# Altium schematic symbol library MCU_NXP_S08.SchLib: 189 symbols (part 1 of 4)
Pins are listed as number, name and electrical type; pins without a type are passive.

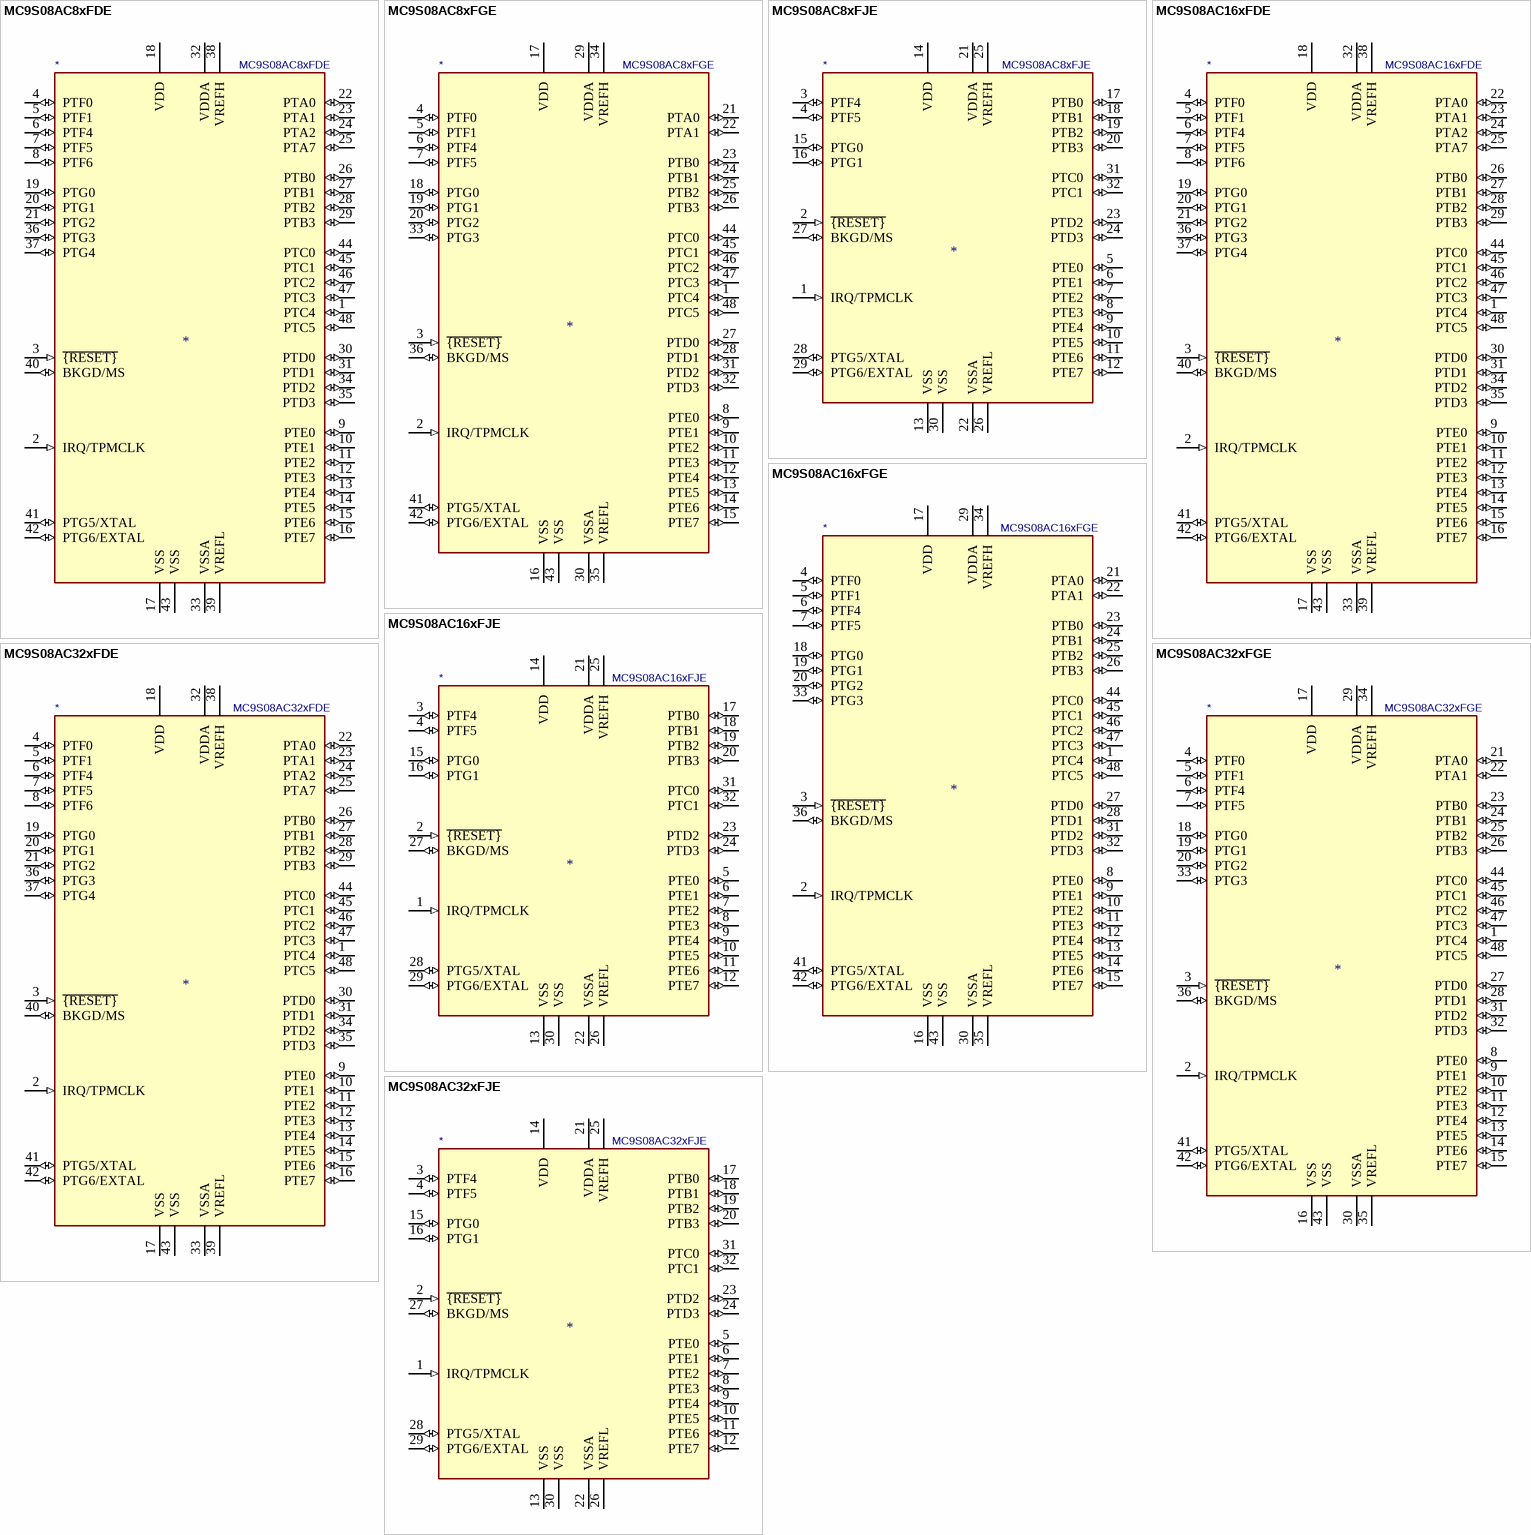
[diagram p0: symbols MC9S08AC8xFDE to MC9S08AC32xFJE]

## MC9S08AC8xFDE
designator *  value MC9S08AC8xFDE
ki_keywords: NXP S08 Microcontroller; ki_description: 8-bit Flexis Microcontroller, S08 core, 8kB Flash, 768B RAM, QFN-48; ki_fp_filters: QFN*7x7mm*P0.5mm*; Footprint: Package_DFN_QFN:QFN-48-1EP_7x7mm_P0.5mm_EP5.15x5.15mm; Supplier: http://cache.nxp.com/files/microcontrollers/doc/data_sheet/MC9S08AC16.pdf
footprint QFN-48-1EP_7x7mm_P0.5mm_EP5.15x5.15mm
pins: 1 PTC4 (io), 2 IRQ/TPMCLK (in), 3 ~{{RESET}} (in), 4 PTF0 (io), 5 PTF1 (io), 6 PTF4 (io), 7 PTF5 (io), 8 PTF6 (io), 9 PTE0 (io), 10 PTE1 (io), 11 PTE2 (io), 12 PTE3 (io), 13 PTE4 (io), 14 PTE5 (io), 15 PTE6 (io), 16 PTE7 (io), 17 VSS (power), 18 VDD (power), 19 PTG0 (io), 20 PTG1 (io), 21 PTG2 (io), 22 PTA0 (io), 23 PTA1 (io), 24 PTA2 (io), 25 PTA7 (io), 26 PTB0 (io), 27 PTB1 (io), 28 PTB2 (io), 29 PTB3 (io), 30 PTD0 (io), 31 PTD1 (io), 32 VDDA (power), 33 VSSA (power), 34 PTD2 (io), 35 PTD3 (io), 36 PTG3 (io), 37 PTG4 (io), 38 VREFH (power), 39 VREFL (power), 40 BKGD/MS (io), 41 PTG5/XTAL (io), 42 PTG6/EXTAL (io), 43 VSS (power), 44 PTC0 (io), 45 PTC1 (io), 46 PTC2 (io), 47 PTC3 (io), 48 PTC5 (io)

## MC9S08AC8xFGE
designator *  value MC9S08AC8xFGE
ki_keywords: NXP S08 Microcontroller; ki_description: 8-bit Flexis Microcontroller, S08 core, 8kB Flash, 768B RAM, LQFP-44; ki_fp_filters: LQFP*10x10mm*P0.8mm*; Footprint: Package_QFP:LQFP-44_10x10mm_P0.8mm; Supplier: http://cache.nxp.com/files/microcontrollers/doc/data_sheet/MC9S08AC16.pdf
footprint LQFP-44_10x10mm_P0.8mm
pins: 1 PTC4 (io), 2 IRQ/TPMCLK (in), 3 ~{{RESET}} (in), 4 PTF0 (io), 5 PTF1 (io), 6 PTF4 (io), 7 PTF5 (io), 8 PTE0 (io), 9 PTE1 (io), 10 PTE2 (io), 11 PTE3 (io), 12 PTE4 (io), 13 PTE5 (io), 14 PTE6 (io), 15 PTE7 (io), 16 VSS (power), 17 VDD (power), 18 PTG0 (io), 19 PTG1 (io), 20 PTG2 (io), 21 PTA0 (io), 22 PTA1 (io), 23 PTB0 (io), 24 PTB1 (io), 25 PTB2 (io), 26 PTB3 (io), 27 PTD0 (io), 28 PTD1 (io), 29 VDDA (power), 30 VSSA (power), 31 PTD2 (io), 32 PTD3 (io), 33 PTG3 (io), 34 VREFH (power), 35 VREFL (power), 36 BKGD/MS (io), 41 PTG5/XTAL (io), 42 PTG6/EXTAL (io), 43 VSS (power), 44 PTC0 (io), 45 PTC1 (io), 46 PTC2 (io), 47 PTC3 (io), 48 PTC5 (io)

## MC9S08AC8xFJE
designator *  value MC9S08AC8xFJE
ki_keywords: NXP S08 Microcontroller; ki_description: 8-bit Flexis Microcontroller, S08 core, 8kB Flash, 768B RAM, LQFP-32; ki_fp_filters: LQFP*7x7mm*P0.8mm*; Footprint: Package_QFP:LQFP-32_7x7mm_P0.8mm; Supplier: http://cache.nxp.com/files/microcontrollers/doc/data_sheet/MC9S08AC16.pdf
footprint LQFP-32_7x7mm_P0.8mm
pins: 1 IRQ/TPMCLK (in), 2 ~{{RESET}} (in), 3 PTF4 (io), 4 PTF5 (io), 5 PTE0 (io), 6 PTE1 (io), 7 PTE2 (io), 8 PTE3 (io), 9 PTE4 (io), 10 PTE5 (io), 11 PTE6 (io), 12 PTE7 (io), 13 VSS (power), 14 VDD (power), 15 PTG0 (io), 16 PTG1 (io), 17 PTB0 (io), 18 PTB1 (io), 19 PTB2 (io), 20 PTB3 (io), 21 VDDA (power), 22 VSSA (power), 23 PTD2 (io), 24 PTD3 (io), 25 VREFH (power), 26 VREFL (power), 27 BKGD/MS (io), 28 PTG5/XTAL (io), 29 PTG6/EXTAL (io), 30 VSS (power), 31 PTC0 (io), 32 PTC1 (io)

## MC9S08AC16xFDE
designator *  value MC9S08AC16xFDE
ki_keywords: NXP S08 Microcontroller; ki_description: 8-bit Flexis Microcontroller, S08 core, 16kB Flash, 1kB RAM, QFN-48; ki_fp_filters: QFN*7x7mm*P0.5mm*; Footprint: Package_DFN_QFN:QFN-48-1EP_7x7mm_P0.5mm_EP5.15x5.15mm; Supplier: http://cache.nxp.com/files/microcontrollers/doc/data_sheet/MC9S08AC16.pdf
footprint QFN-48-1EP_7x7mm_P0.5mm_EP5.15x5.15mm
pins: 1 PTC4 (io), 2 IRQ/TPMCLK (in), 3 ~{{RESET}} (in), 4 PTF0 (io), 5 PTF1 (io), 6 PTF4 (io), 7 PTF5 (io), 8 PTF6 (io), 9 PTE0 (io), 10 PTE1 (io), 11 PTE2 (io), 12 PTE3 (io), 13 PTE4 (io), 14 PTE5 (io), 15 PTE6 (io), 16 PTE7 (io), 17 VSS (power), 18 VDD (power), 19 PTG0 (io), 20 PTG1 (io), 21 PTG2 (io), 22 PTA0 (io), 23 PTA1 (io), 24 PTA2 (io), 25 PTA7 (io), 26 PTB0 (io), 27 PTB1 (io), 28 PTB2 (io), 29 PTB3 (io), 30 PTD0 (io), 31 PTD1 (io), 32 VDDA (power), 33 VSSA (power), 34 PTD2 (io), 35 PTD3 (io), 36 PTG3 (io), 37 PTG4 (io), 38 VREFH (power), 39 VREFL (power), 40 BKGD/MS (io), 41 PTG5/XTAL (io), 42 PTG6/EXTAL (io), 43 VSS (power), 44 PTC0 (io), 45 PTC1 (io), 46 PTC2 (io), 47 PTC3 (io), 48 PTC5 (io)

## MC9S08AC16xFGE
designator *  value MC9S08AC16xFGE
ki_keywords: NXP S08 Microcontroller; ki_description: 8-bit Flexis Microcontroller, S08 core, 16kB Flash, 1kB RAM, LQFP-44; ki_fp_filters: LQFP*10x10mm*P0.8mm*; Footprint: Package_QFP:LQFP-44_10x10mm_P0.8mm; Supplier: http://cache.nxp.com/files/microcontrollers/doc/data_sheet/MC9S08AC16.pdf
footprint LQFP-44_10x10mm_P0.8mm
pins: 1 PTC4 (io), 2 IRQ/TPMCLK (in), 3 ~{{RESET}} (in), 4 PTF0 (io), 5 PTF1 (io), 6 PTF4 (io), 7 PTF5 (io), 8 PTE0 (io), 9 PTE1 (io), 10 PTE2 (io), 11 PTE3 (io), 12 PTE4 (io), 13 PTE5 (io), 14 PTE6 (io), 15 PTE7 (io), 16 VSS (power), 17 VDD (power), 18 PTG0 (io), 19 PTG1 (io), 20 PTG2 (io), 21 PTA0 (io), 22 PTA1 (io), 23 PTB0 (io), 24 PTB1 (io), 25 PTB2 (io), 26 PTB3 (io), 27 PTD0 (io), 28 PTD1 (io), 29 VDDA (power), 30 VSSA (power), 31 PTD2 (io), 32 PTD3 (io), 33 PTG3 (io), 34 VREFH (power), 35 VREFL (power), 36 BKGD/MS (io), 41 PTG5/XTAL (io), 42 PTG6/EXTAL (io), 43 VSS (power), 44 PTC0 (io), 45 PTC1 (io), 46 PTC2 (io), 47 PTC3 (io), 48 PTC5 (io)

## MC9S08AC16xFJE
designator *  value MC9S08AC16xFJE
ki_keywords: NXP S08 Microcontroller; ki_description: 8-bit Flexis Microcontroller, S08 core, 16kB Flash, 1kB RAM, LQFP-32; ki_fp_filters: LQFP*7x7mm*P0.8mm*; Footprint: Package_QFP:LQFP-32_7x7mm_P0.8mm; Supplier: http://cache.nxp.com/files/microcontrollers/doc/data_sheet/MC9S08AC16.pdf
footprint LQFP-32_7x7mm_P0.8mm
pins: 1 IRQ/TPMCLK (in), 2 ~{{RESET}} (in), 3 PTF4 (io), 4 PTF5 (io), 5 PTE0 (io), 6 PTE1 (io), 7 PTE2 (io), 8 PTE3 (io), 9 PTE4 (io), 10 PTE5 (io), 11 PTE6 (io), 12 PTE7 (io), 13 VSS (power), 14 VDD (power), 15 PTG0 (io), 16 PTG1 (io), 17 PTB0 (io), 18 PTB1 (io), 19 PTB2 (io), 20 PTB3 (io), 21 VDDA (power), 22 VSSA (power), 23 PTD2 (io), 24 PTD3 (io), 25 VREFH (power), 26 VREFL (power), 27 BKGD/MS (io), 28 PTG5/XTAL (io), 29 PTG6/EXTAL (io), 30 VSS (power), 31 PTC0 (io), 32 PTC1 (io)

## MC9S08AC32xFDE
designator *  value MC9S08AC32xFDE
ki_keywords: NXP S08 Microcontroller; ki_description: 8-bit Flexis Microcontroller, S08 core, 32kB Flash, 2kB RAM, QFN-48; ki_fp_filters: QFN*7x7mm*P0.5mm*; Footprint: Package_DFN_QFN:QFN-48-1EP_7x7mm_P0.5mm_EP5.15x5.15mm; Supplier: http://cache.nxp.com/files/microcontrollers/doc/data_sheet/MC9S08AC60.pdf
footprint QFN-48-1EP_7x7mm_P0.5mm_EP5.15x5.15mm
pins: 1 PTC4 (io), 2 IRQ/TPMCLK (in), 3 ~{{RESET}} (in), 4 PTF0 (io), 5 PTF1 (io), 6 PTF4 (io), 7 PTF5 (io), 8 PTF6 (io), 9 PTE0 (io), 10 PTE1 (io), 11 PTE2 (io), 12 PTE3 (io), 13 PTE4 (io), 14 PTE5 (io), 15 PTE6 (io), 16 PTE7 (io), 17 VSS (power), 18 VDD (power), 19 PTG0 (io), 20 PTG1 (io), 21 PTG2 (io), 22 PTA0 (io), 23 PTA1 (io), 24 PTA2 (io), 25 PTA7 (io), 26 PTB0 (io), 27 PTB1 (io), 28 PTB2 (io), 29 PTB3 (io), 30 PTD0 (io), 31 PTD1 (io), 32 VDDA (power), 33 VSSA (power), 34 PTD2 (io), 35 PTD3 (io), 36 PTG3 (io), 37 PTG4 (io), 38 VREFH (power), 39 VREFL (power), 40 BKGD/MS (io), 41 PTG5/XTAL (io), 42 PTG6/EXTAL (io), 43 VSS (power), 44 PTC0 (io), 45 PTC1 (io), 46 PTC2 (io), 47 PTC3 (io), 48 PTC5 (io)

## MC9S08AC32xFGE
designator *  value MC9S08AC32xFGE
ki_keywords: NXP S08 Microcontroller; ki_description: 8-bit Flexis Microcontroller, S08 core, 32kB Flash, 2kB RAM, LQFP-44; ki_fp_filters: LQFP*10x10mm*P0.8mm*; Footprint: Package_QFP:LQFP-44_10x10mm_P0.8mm; Supplier: http://cache.nxp.com/files/microcontrollers/doc/data_sheet/MC9S08AC60.pdf
footprint LQFP-44_10x10mm_P0.8mm
pins: 1 PTC4 (io), 2 IRQ/TPMCLK (in), 3 ~{{RESET}} (in), 4 PTF0 (io), 5 PTF1 (io), 6 PTF4 (io), 7 PTF5 (io), 8 PTE0 (io), 9 PTE1 (io), 10 PTE2 (io), 11 PTE3 (io), 12 PTE4 (io), 13 PTE5 (io), 14 PTE6 (io), 15 PTE7 (io), 16 VSS (power), 17 VDD (power), 18 PTG0 (io), 19 PTG1 (io), 20 PTG2 (io), 21 PTA0 (io), 22 PTA1 (io), 23 PTB0 (io), 24 PTB1 (io), 25 PTB2 (io), 26 PTB3 (io), 27 PTD0 (io), 28 PTD1 (io), 29 VDDA (power), 30 VSSA (power), 31 PTD2 (io), 32 PTD3 (io), 33 PTG3 (io), 34 VREFH (power), 35 VREFL (power), 36 BKGD/MS (io), 41 PTG5/XTAL (io), 42 PTG6/EXTAL (io), 43 VSS (power), 44 PTC0 (io), 45 PTC1 (io), 46 PTC2 (io), 47 PTC3 (io), 48 PTC5 (io)

## MC9S08AC32xFJE
designator *  value MC9S08AC32xFJE
ki_keywords: NXP S08 Microcontroller; ki_description: 8-bit Flexis Microcontroller, S08 core, 32kB Flash, 2kB RAM, LQFP-32; ki_fp_filters: LQFP*7x7mm*P0.8mm*; Footprint: Package_QFP:LQFP-32_7x7mm_P0.8mm; Supplier: http://cache.nxp.com/files/microcontrollers/doc/data_sheet/MC9S08AC60.pdf
footprint LQFP-32_7x7mm_P0.8mm
pins: 1 IRQ/TPMCLK (in), 2 ~{{RESET}} (in), 3 PTF4 (io), 4 PTF5 (io), 5 PTE0 (io), 6 PTE1 (io), 7 PTE2 (io), 8 PTE3 (io), 9 PTE4 (io), 10 PTE5 (io), 11 PTE6 (io), 12 PTE7 (io), 13 VSS (power), 14 VDD (power), 15 PTG0 (io), 16 PTG1 (io), 17 PTB0 (io), 18 PTB1 (io), 19 PTB2 (io), 20 PTB3 (io), 21 VDDA (power), 22 VSSA (power), 23 PTD2 (io), 24 PTD3 (io), 25 VREFH (power), 26 VREFL (power), 27 BKGD/MS (io), 28 PTG5/XTAL (io), 29 PTG6/EXTAL (io), 30 VSS (power), 31 PTC0 (io), 32 PTC1 (io)

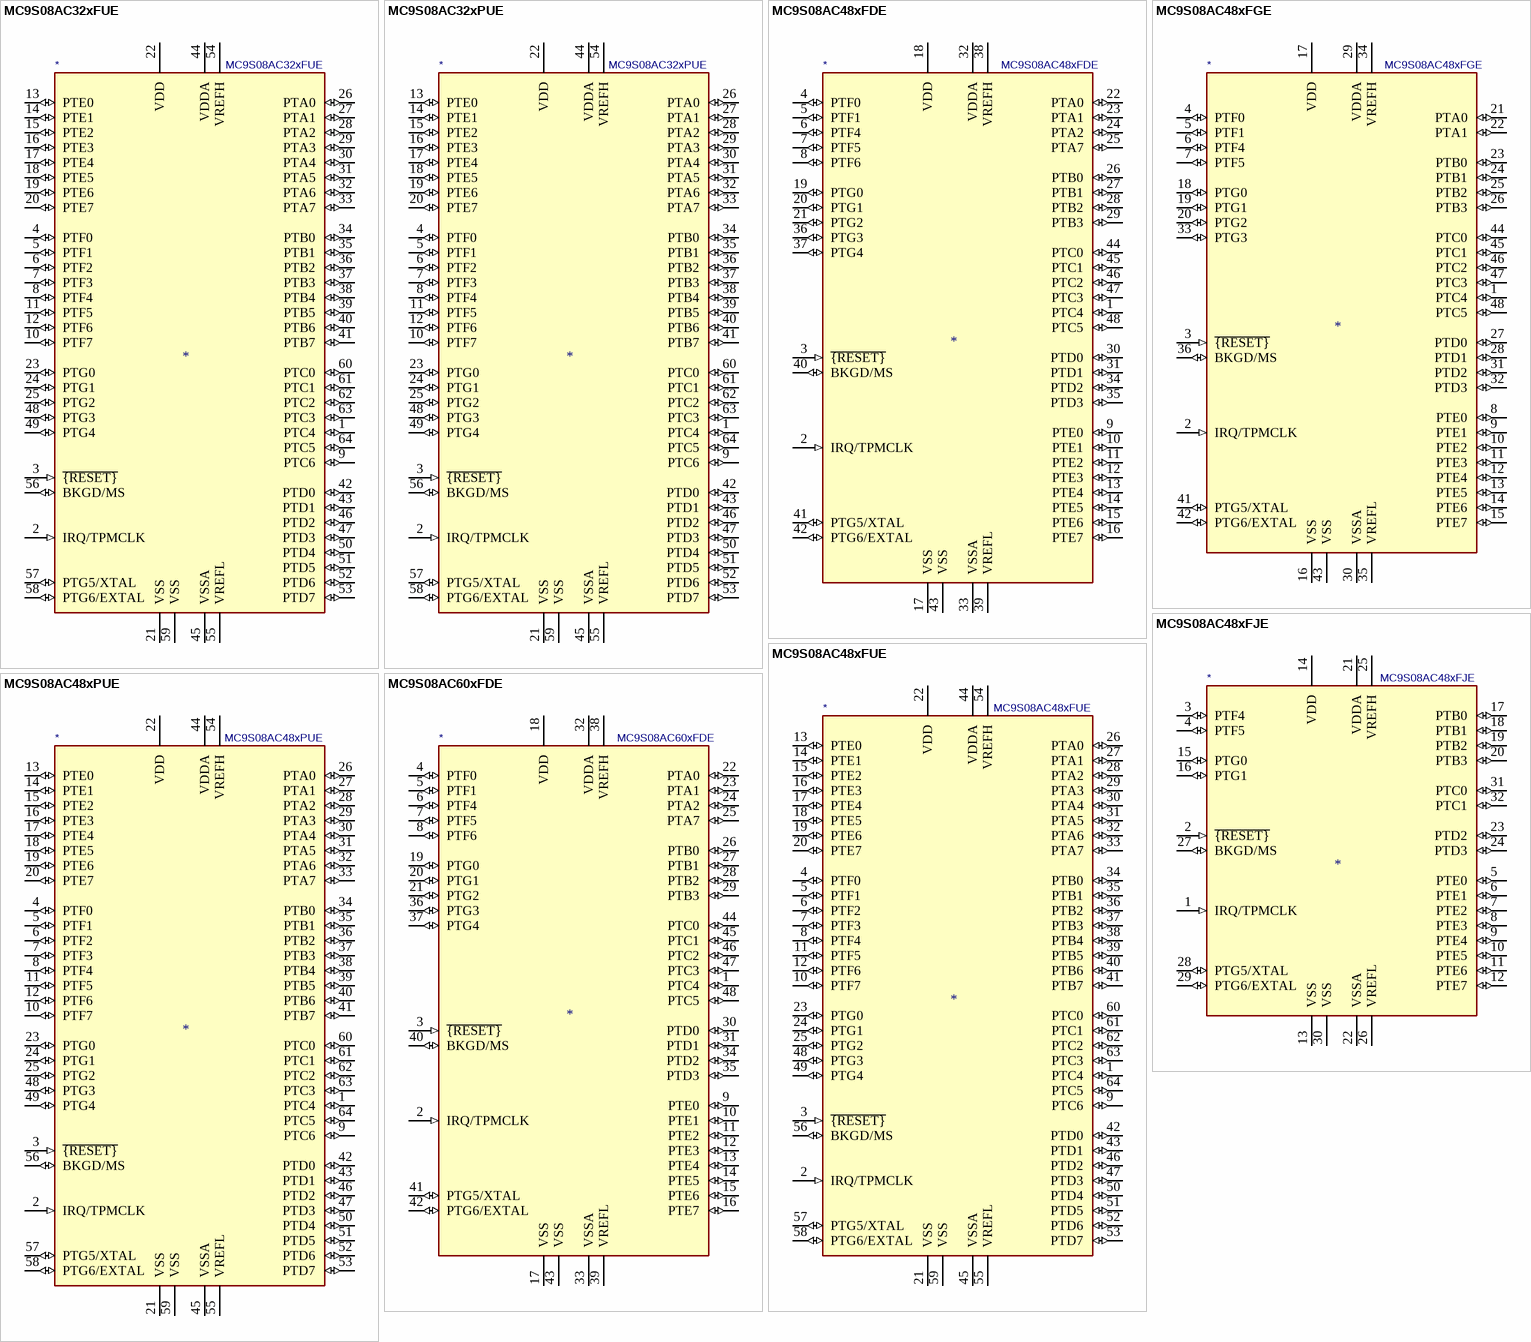
[diagram p1: symbols MC9S08AC32xFUE to MC9S08AC60xFDE]

## MC9S08AC32xFUE
designator *  value MC9S08AC32xFUE
ki_keywords: NXP S08 Microcontroller; ki_description: 8-bit Flexis Microcontroller, S08 core, 32kB Flash, 2kB RAM, LQFP-64; ki_fp_filters: LQFP*14x14mm*P0.8mm*; Footprint: Package_QFP:LQFP-64_14x14mm_P0.8mm; Supplier: http://cache.nxp.com/files/microcontrollers/doc/data_sheet/MC9S08AC60.pdf
footprint LQFP-64_14x14mm_P0.8mm
pins: 1 PTC4 (io), 2 IRQ/TPMCLK (in), 3 ~{{RESET}} (in), 4 PTF0 (io), 5 PTF1 (io), 6 PTF2 (io), 7 PTF3 (io), 8 PTF4 (io), 9 PTC6 (io), 10 PTF7 (io), 11 PTF5 (io), 12 PTF6 (io), 13 PTE0 (io), 14 PTE1 (io), 15 PTE2 (io), 16 PTE3 (io), 17 PTE4 (io), 18 PTE5 (io), 19 PTE6 (io), 20 PTE7 (io), 21 VSS (power), 22 VDD (power), 23 PTG0 (io), 24 PTG1 (io), 25 PTG2 (io), 26 PTA0 (io), 27 PTA1 (io), 28 PTA2 (io), 29 PTA3 (io), 30 PTA4 (io), 31 PTA5 (io), 32 PTA6 (io), 33 PTA7 (io), 34 PTB0 (io), 35 PTB1 (io), 36 PTB2 (io), 37 PTB3 (io), 38 PTB4 (io), 39 PTB5 (io), 40 PTB6 (io), 41 PTB7 (io), 42 PTD0 (io), 43 PTD1 (io), 44 VDDA (power), 45 VSSA (power), 46 PTD2 (io), 47 PTD3 (io), 48 PTG3 (io), 49 PTG4 (io), 50 PTD4 (io), 51 PTD5 (io), 52 PTD6 (io), 53 PTD7 (io), 54 VREFH (power), 55 VREFL (power), 56 BKGD/MS (io), 57 PTG5/XTAL (io), 58 PTG6/EXTAL (io), 59 VSS (power), 60 PTC0 (io), 61 PTC1 (io), 62 PTC2 (io), 63 PTC3 (io), 64 PTC5 (io)

## MC9S08AC32xPUE
designator *  value MC9S08AC32xPUE
ki_keywords: NXP S08 Microcontroller; ki_description: 8-bit Flexis Microcontroller, S08 core, 32kB Flash, 2kB RAM, LQFP-64; ki_fp_filters: LQFP*10x10mm*P0.5mm*; Footprint: Package_QFP:LQFP-64_10x10mm_P0.5mm; Supplier: http://cache.nxp.com/files/microcontrollers/doc/data_sheet/MC9S08AC60.pdf
footprint LQFP-64_10x10mm_P0.5mm
pins: 1 PTC4 (io), 2 IRQ/TPMCLK (in), 3 ~{{RESET}} (in), 4 PTF0 (io), 5 PTF1 (io), 6 PTF2 (io), 7 PTF3 (io), 8 PTF4 (io), 9 PTC6 (io), 10 PTF7 (io), 11 PTF5 (io), 12 PTF6 (io), 13 PTE0 (io), 14 PTE1 (io), 15 PTE2 (io), 16 PTE3 (io), 17 PTE4 (io), 18 PTE5 (io), 19 PTE6 (io), 20 PTE7 (io), 21 VSS (power), 22 VDD (power), 23 PTG0 (io), 24 PTG1 (io), 25 PTG2 (io), 26 PTA0 (io), 27 PTA1 (io), 28 PTA2 (io), 29 PTA3 (io), 30 PTA4 (io), 31 PTA5 (io), 32 PTA6 (io), 33 PTA7 (io), 34 PTB0 (io), 35 PTB1 (io), 36 PTB2 (io), 37 PTB3 (io), 38 PTB4 (io), 39 PTB5 (io), 40 PTB6 (io), 41 PTB7 (io), 42 PTD0 (io), 43 PTD1 (io), 44 VDDA (power), 45 VSSA (power), 46 PTD2 (io), 47 PTD3 (io), 48 PTG3 (io), 49 PTG4 (io), 50 PTD4 (io), 51 PTD5 (io), 52 PTD6 (io), 53 PTD7 (io), 54 VREFH (power), 55 VREFL (power), 56 BKGD/MS (io), 57 PTG5/XTAL (io), 58 PTG6/EXTAL (io), 59 VSS (power), 60 PTC0 (io), 61 PTC1 (io), 62 PTC2 (io), 63 PTC3 (io), 64 PTC5 (io)

## MC9S08AC48xFDE
designator *  value MC9S08AC48xFDE
ki_keywords: NXP S08 Microcontroller; ki_description: 8-bit Flexis Microcontroller, S08 core, 48kB Flash, 2kB RAM, QFN-48; ki_fp_filters: QFN*7x7mm*P0.5mm*; Footprint: Package_DFN_QFN:QFN-48-1EP_7x7mm_P0.5mm_EP5.15x5.15mm; Supplier: http://cache.nxp.com/files/microcontrollers/doc/data_sheet/MC9S08AC60.pdf
footprint QFN-48-1EP_7x7mm_P0.5mm_EP5.15x5.15mm
pins: 1 PTC4 (io), 2 IRQ/TPMCLK (in), 3 ~{{RESET}} (in), 4 PTF0 (io), 5 PTF1 (io), 6 PTF4 (io), 7 PTF5 (io), 8 PTF6 (io), 9 PTE0 (io), 10 PTE1 (io), 11 PTE2 (io), 12 PTE3 (io), 13 PTE4 (io), 14 PTE5 (io), 15 PTE6 (io), 16 PTE7 (io), 17 VSS (power), 18 VDD (power), 19 PTG0 (io), 20 PTG1 (io), 21 PTG2 (io), 22 PTA0 (io), 23 PTA1 (io), 24 PTA2 (io), 25 PTA7 (io), 26 PTB0 (io), 27 PTB1 (io), 28 PTB2 (io), 29 PTB3 (io), 30 PTD0 (io), 31 PTD1 (io), 32 VDDA (power), 33 VSSA (power), 34 PTD2 (io), 35 PTD3 (io), 36 PTG3 (io), 37 PTG4 (io), 38 VREFH (power), 39 VREFL (power), 40 BKGD/MS (io), 41 PTG5/XTAL (io), 42 PTG6/EXTAL (io), 43 VSS (power), 44 PTC0 (io), 45 PTC1 (io), 46 PTC2 (io), 47 PTC3 (io), 48 PTC5 (io)

## MC9S08AC48xFGE
designator *  value MC9S08AC48xFGE
ki_keywords: NXP S08 Microcontroller; ki_description: 8-bit Flexis Microcontroller, S08 core, 48kB Flash, 2kB RAM, LQFP-44; ki_fp_filters: LQFP*10x10mm*P0.8mm*; Footprint: Package_QFP:LQFP-44_10x10mm_P0.8mm; Supplier: http://cache.nxp.com/files/microcontrollers/doc/data_sheet/MC9S08AC60.pdf
footprint LQFP-44_10x10mm_P0.8mm
pins: 1 PTC4 (io), 2 IRQ/TPMCLK (in), 3 ~{{RESET}} (in), 4 PTF0 (io), 5 PTF1 (io), 6 PTF4 (io), 7 PTF5 (io), 8 PTE0 (io), 9 PTE1 (io), 10 PTE2 (io), 11 PTE3 (io), 12 PTE4 (io), 13 PTE5 (io), 14 PTE6 (io), 15 PTE7 (io), 16 VSS (power), 17 VDD (power), 18 PTG0 (io), 19 PTG1 (io), 20 PTG2 (io), 21 PTA0 (io), 22 PTA1 (io), 23 PTB0 (io), 24 PTB1 (io), 25 PTB2 (io), 26 PTB3 (io), 27 PTD0 (io), 28 PTD1 (io), 29 VDDA (power), 30 VSSA (power), 31 PTD2 (io), 32 PTD3 (io), 33 PTG3 (io), 34 VREFH (power), 35 VREFL (power), 36 BKGD/MS (io), 41 PTG5/XTAL (io), 42 PTG6/EXTAL (io), 43 VSS (power), 44 PTC0 (io), 45 PTC1 (io), 46 PTC2 (io), 47 PTC3 (io), 48 PTC5 (io)

## MC9S08AC48xFJE
designator *  value MC9S08AC48xFJE
ki_keywords: NXP S08 Microcontroller; ki_description: 8-bit Flexis Microcontroller, S08 core, 48kB Flash, 2kB RAM, LQFP-32; ki_fp_filters: LQFP*7x7mm*P0.8mm*; Footprint: Package_QFP:LQFP-32_7x7mm_P0.8mm; Supplier: http://cache.nxp.com/files/microcontrollers/doc/data_sheet/MC9S08AC60.pdf
footprint LQFP-32_7x7mm_P0.8mm
pins: 1 IRQ/TPMCLK (in), 2 ~{{RESET}} (in), 3 PTF4 (io), 4 PTF5 (io), 5 PTE0 (io), 6 PTE1 (io), 7 PTE2 (io), 8 PTE3 (io), 9 PTE4 (io), 10 PTE5 (io), 11 PTE6 (io), 12 PTE7 (io), 13 VSS (power), 14 VDD (power), 15 PTG0 (io), 16 PTG1 (io), 17 PTB0 (io), 18 PTB1 (io), 19 PTB2 (io), 20 PTB3 (io), 21 VDDA (power), 22 VSSA (power), 23 PTD2 (io), 24 PTD3 (io), 25 VREFH (power), 26 VREFL (power), 27 BKGD/MS (io), 28 PTG5/XTAL (io), 29 PTG6/EXTAL (io), 30 VSS (power), 31 PTC0 (io), 32 PTC1 (io)

## MC9S08AC48xFUE
designator *  value MC9S08AC48xFUE
ki_keywords: NXP S08 Microcontroller; ki_description: 8-bit Flexis Microcontroller, S08 core, 48kB Flash, 2kB RAM, LQFP-64; ki_fp_filters: LQFP*14x14mm*P0.8mm*; Footprint: Package_QFP:LQFP-64_14x14mm_P0.8mm; Supplier: http://cache.nxp.com/files/microcontrollers/doc/data_sheet/MC9S08AC60.pdf
footprint LQFP-64_14x14mm_P0.8mm
pins: 1 PTC4 (io), 2 IRQ/TPMCLK (in), 3 ~{{RESET}} (in), 4 PTF0 (io), 5 PTF1 (io), 6 PTF2 (io), 7 PTF3 (io), 8 PTF4 (io), 9 PTC6 (io), 10 PTF7 (io), 11 PTF5 (io), 12 PTF6 (io), 13 PTE0 (io), 14 PTE1 (io), 15 PTE2 (io), 16 PTE3 (io), 17 PTE4 (io), 18 PTE5 (io), 19 PTE6 (io), 20 PTE7 (io), 21 VSS (power), 22 VDD (power), 23 PTG0 (io), 24 PTG1 (io), 25 PTG2 (io), 26 PTA0 (io), 27 PTA1 (io), 28 PTA2 (io), 29 PTA3 (io), 30 PTA4 (io), 31 PTA5 (io), 32 PTA6 (io), 33 PTA7 (io), 34 PTB0 (io), 35 PTB1 (io), 36 PTB2 (io), 37 PTB3 (io), 38 PTB4 (io), 39 PTB5 (io), 40 PTB6 (io), 41 PTB7 (io), 42 PTD0 (io), 43 PTD1 (io), 44 VDDA (power), 45 VSSA (power), 46 PTD2 (io), 47 PTD3 (io), 48 PTG3 (io), 49 PTG4 (io), 50 PTD4 (io), 51 PTD5 (io), 52 PTD6 (io), 53 PTD7 (io), 54 VREFH (power), 55 VREFL (power), 56 BKGD/MS (io), 57 PTG5/XTAL (io), 58 PTG6/EXTAL (io), 59 VSS (power), 60 PTC0 (io), 61 PTC1 (io), 62 PTC2 (io), 63 PTC3 (io), 64 PTC5 (io)

## MC9S08AC48xPUE
designator *  value MC9S08AC48xPUE
ki_keywords: NXP S08 Microcontroller; ki_description: 8-bit Flexis Microcontroller, S08 core, 48kB Flash, 2kB RAM, LQFP-64; ki_fp_filters: LQFP*10x10mm*P0.5mm*; Footprint: Package_QFP:LQFP-64_10x10mm_P0.5mm; Supplier: http://cache.nxp.com/files/microcontrollers/doc/data_sheet/MC9S08AC60.pdf
footprint LQFP-64_10x10mm_P0.5mm
pins: 1 PTC4 (io), 2 IRQ/TPMCLK (in), 3 ~{{RESET}} (in), 4 PTF0 (io), 5 PTF1 (io), 6 PTF2 (io), 7 PTF3 (io), 8 PTF4 (io), 9 PTC6 (io), 10 PTF7 (io), 11 PTF5 (io), 12 PTF6 (io), 13 PTE0 (io), 14 PTE1 (io), 15 PTE2 (io), 16 PTE3 (io), 17 PTE4 (io), 18 PTE5 (io), 19 PTE6 (io), 20 PTE7 (io), 21 VSS (power), 22 VDD (power), 23 PTG0 (io), 24 PTG1 (io), 25 PTG2 (io), 26 PTA0 (io), 27 PTA1 (io), 28 PTA2 (io), 29 PTA3 (io), 30 PTA4 (io), 31 PTA5 (io), 32 PTA6 (io), 33 PTA7 (io), 34 PTB0 (io), 35 PTB1 (io), 36 PTB2 (io), 37 PTB3 (io), 38 PTB4 (io), 39 PTB5 (io), 40 PTB6 (io), 41 PTB7 (io), 42 PTD0 (io), 43 PTD1 (io), 44 VDDA (power), 45 VSSA (power), 46 PTD2 (io), 47 PTD3 (io), 48 PTG3 (io), 49 PTG4 (io), 50 PTD4 (io), 51 PTD5 (io), 52 PTD6 (io), 53 PTD7 (io), 54 VREFH (power), 55 VREFL (power), 56 BKGD/MS (io), 57 PTG5/XTAL (io), 58 PTG6/EXTAL (io), 59 VSS (power), 60 PTC0 (io), 61 PTC1 (io), 62 PTC2 (io), 63 PTC3 (io), 64 PTC5 (io)

## MC9S08AC60xFDE
designator *  value MC9S08AC60xFDE
ki_keywords: NXP S08 Microcontroller; ki_description: 8-bit Flexis Microcontroller, S08 core, 60kB Flash, 2kB RAM, QFN-48; ki_fp_filters: QFN*7x7mm*P0.5mm*; Footprint: Package_DFN_QFN:QFN-48-1EP_7x7mm_P0.5mm_EP5.15x5.15mm; Supplier: http://cache.nxp.com/files/microcontrollers/doc/data_sheet/MC9S08AC60.pdf
footprint QFN-48-1EP_7x7mm_P0.5mm_EP5.15x5.15mm
pins: 1 PTC4 (io), 2 IRQ/TPMCLK (in), 3 ~{{RESET}} (in), 4 PTF0 (io), 5 PTF1 (io), 6 PTF4 (io), 7 PTF5 (io), 8 PTF6 (io), 9 PTE0 (io), 10 PTE1 (io), 11 PTE2 (io), 12 PTE3 (io), 13 PTE4 (io), 14 PTE5 (io), 15 PTE6 (io), 16 PTE7 (io), 17 VSS (power), 18 VDD (power), 19 PTG0 (io), 20 PTG1 (io), 21 PTG2 (io), 22 PTA0 (io), 23 PTA1 (io), 24 PTA2 (io), 25 PTA7 (io), 26 PTB0 (io), 27 PTB1 (io), 28 PTB2 (io), 29 PTB3 (io), 30 PTD0 (io), 31 PTD1 (io), 32 VDDA (power), 33 VSSA (power), 34 PTD2 (io), 35 PTD3 (io), 36 PTG3 (io), 37 PTG4 (io), 38 VREFH (power), 39 VREFL (power), 40 BKGD/MS (io), 41 PTG5/XTAL (io), 42 PTG6/EXTAL (io), 43 VSS (power), 44 PTC0 (io), 45 PTC1 (io), 46 PTC2 (io), 47 PTC3 (io), 48 PTC5 (io)

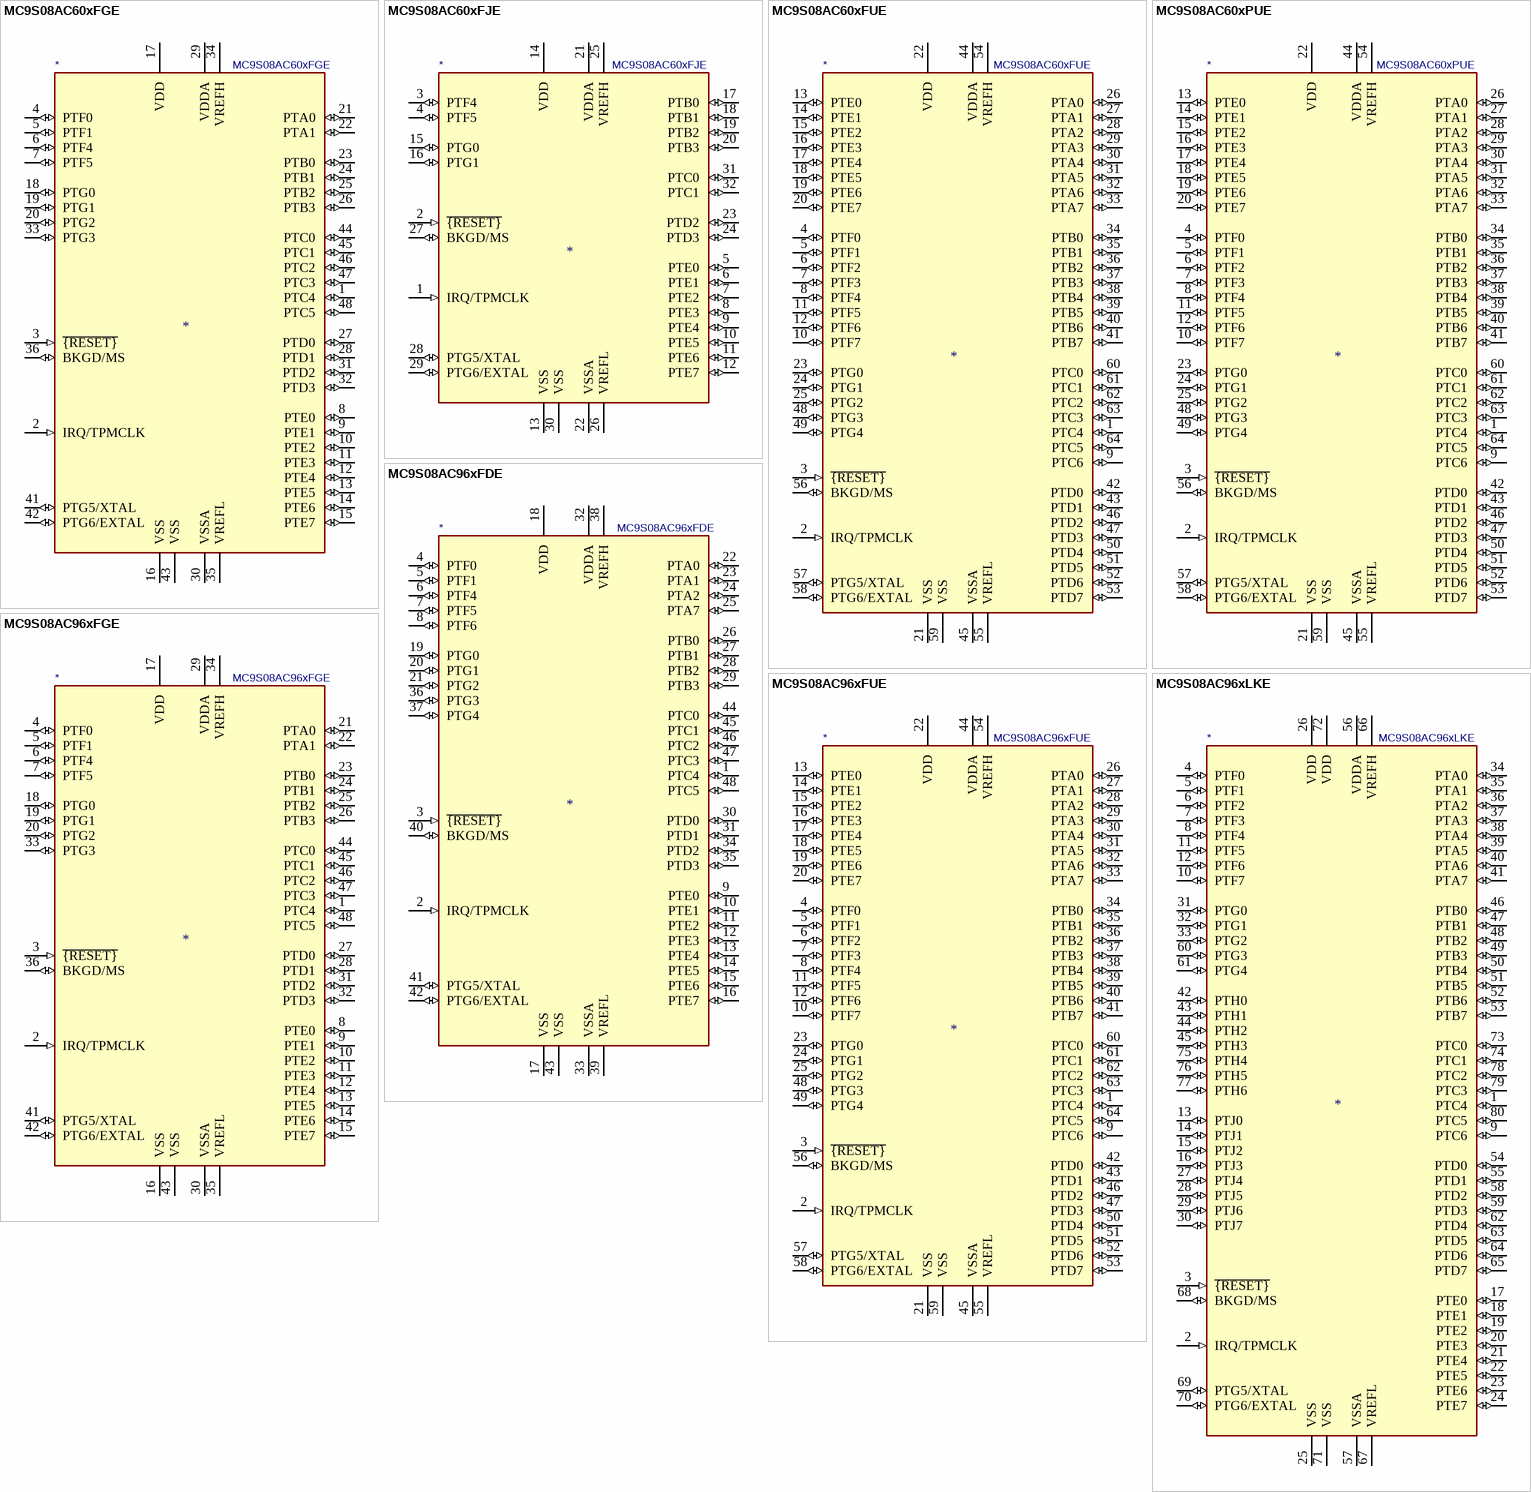
[diagram p2: symbols MC9S08AC60xFGE to MC9S08AC96xLKE]

## MC9S08AC60xFGE
designator *  value MC9S08AC60xFGE
ki_keywords: NXP S08 Microcontroller; ki_description: 8-bit Flexis Microcontroller, S08 core, 60kB Flash, 2kB RAM, LQFP-44; ki_fp_filters: LQFP*10x10mm*P0.8mm*; Footprint: Package_QFP:LQFP-44_10x10mm_P0.8mm; Supplier: http://cache.nxp.com/files/microcontrollers/doc/data_sheet/MC9S08AC60.pdf
footprint LQFP-44_10x10mm_P0.8mm
pins: 1 PTC4 (io), 2 IRQ/TPMCLK (in), 3 ~{{RESET}} (in), 4 PTF0 (io), 5 PTF1 (io), 6 PTF4 (io), 7 PTF5 (io), 8 PTE0 (io), 9 PTE1 (io), 10 PTE2 (io), 11 PTE3 (io), 12 PTE4 (io), 13 PTE5 (io), 14 PTE6 (io), 15 PTE7 (io), 16 VSS (power), 17 VDD (power), 18 PTG0 (io), 19 PTG1 (io), 20 PTG2 (io), 21 PTA0 (io), 22 PTA1 (io), 23 PTB0 (io), 24 PTB1 (io), 25 PTB2 (io), 26 PTB3 (io), 27 PTD0 (io), 28 PTD1 (io), 29 VDDA (power), 30 VSSA (power), 31 PTD2 (io), 32 PTD3 (io), 33 PTG3 (io), 34 VREFH (power), 35 VREFL (power), 36 BKGD/MS (io), 41 PTG5/XTAL (io), 42 PTG6/EXTAL (io), 43 VSS (power), 44 PTC0 (io), 45 PTC1 (io), 46 PTC2 (io), 47 PTC3 (io), 48 PTC5 (io)

## MC9S08AC60xFJE
designator *  value MC9S08AC60xFJE
ki_keywords: NXP S08 Microcontroller; ki_description: 8-bit Flexis Microcontroller, S08 core, 60kB Flash, 2kB RAM, LQFP-32; ki_fp_filters: LQFP*7x7mm*P0.8mm*; Footprint: Package_QFP:LQFP-32_7x7mm_P0.8mm; Supplier: http://cache.nxp.com/files/microcontrollers/doc/data_sheet/MC9S08AC60.pdf
footprint LQFP-32_7x7mm_P0.8mm
pins: 1 IRQ/TPMCLK (in), 2 ~{{RESET}} (in), 3 PTF4 (io), 4 PTF5 (io), 5 PTE0 (io), 6 PTE1 (io), 7 PTE2 (io), 8 PTE3 (io), 9 PTE4 (io), 10 PTE5 (io), 11 PTE6 (io), 12 PTE7 (io), 13 VSS (power), 14 VDD (power), 15 PTG0 (io), 16 PTG1 (io), 17 PTB0 (io), 18 PTB1 (io), 19 PTB2 (io), 20 PTB3 (io), 21 VDDA (power), 22 VSSA (power), 23 PTD2 (io), 24 PTD3 (io), 25 VREFH (power), 26 VREFL (power), 27 BKGD/MS (io), 28 PTG5/XTAL (io), 29 PTG6/EXTAL (io), 30 VSS (power), 31 PTC0 (io), 32 PTC1 (io)

## MC9S08AC60xFUE
designator *  value MC9S08AC60xFUE
ki_keywords: NXP S08 Microcontroller; ki_description: 8-bit Flexis Microcontroller, S08 core, 60kB Flash, 2kB RAM, LQFP-64; ki_fp_filters: LQFP*14x14mm*P0.8mm*; Footprint: Package_QFP:LQFP-64_14x14mm_P0.8mm; Supplier: http://cache.nxp.com/files/microcontrollers/doc/data_sheet/MC9S08AC60.pdf
footprint LQFP-64_14x14mm_P0.8mm
pins: 1 PTC4 (io), 2 IRQ/TPMCLK (in), 3 ~{{RESET}} (in), 4 PTF0 (io), 5 PTF1 (io), 6 PTF2 (io), 7 PTF3 (io), 8 PTF4 (io), 9 PTC6 (io), 10 PTF7 (io), 11 PTF5 (io), 12 PTF6 (io), 13 PTE0 (io), 14 PTE1 (io), 15 PTE2 (io), 16 PTE3 (io), 17 PTE4 (io), 18 PTE5 (io), 19 PTE6 (io), 20 PTE7 (io), 21 VSS (power), 22 VDD (power), 23 PTG0 (io), 24 PTG1 (io), 25 PTG2 (io), 26 PTA0 (io), 27 PTA1 (io), 28 PTA2 (io), 29 PTA3 (io), 30 PTA4 (io), 31 PTA5 (io), 32 PTA6 (io), 33 PTA7 (io), 34 PTB0 (io), 35 PTB1 (io), 36 PTB2 (io), 37 PTB3 (io), 38 PTB4 (io), 39 PTB5 (io), 40 PTB6 (io), 41 PTB7 (io), 42 PTD0 (io), 43 PTD1 (io), 44 VDDA (power), 45 VSSA (power), 46 PTD2 (io), 47 PTD3 (io), 48 PTG3 (io), 49 PTG4 (io), 50 PTD4 (io), 51 PTD5 (io), 52 PTD6 (io), 53 PTD7 (io), 54 VREFH (power), 55 VREFL (power), 56 BKGD/MS (io), 57 PTG5/XTAL (io), 58 PTG6/EXTAL (io), 59 VSS (power), 60 PTC0 (io), 61 PTC1 (io), 62 PTC2 (io), 63 PTC3 (io), 64 PTC5 (io)

## MC9S08AC60xPUE
designator *  value MC9S08AC60xPUE
ki_keywords: NXP S08 Microcontroller; ki_description: 8-bit Flexis Microcontroller, S08 core, 60kB Flash, 2kB RAM, LQFP-64; ki_fp_filters: LQFP*10x10mm*P0.5mm*; Footprint: Package_QFP:LQFP-64_10x10mm_P0.5mm; Supplier: http://cache.nxp.com/files/microcontrollers/doc/data_sheet/MC9S08AC60.pdf
footprint LQFP-64_10x10mm_P0.5mm
pins: 1 PTC4 (io), 2 IRQ/TPMCLK (in), 3 ~{{RESET}} (in), 4 PTF0 (io), 5 PTF1 (io), 6 PTF2 (io), 7 PTF3 (io), 8 PTF4 (io), 9 PTC6 (io), 10 PTF7 (io), 11 PTF5 (io), 12 PTF6 (io), 13 PTE0 (io), 14 PTE1 (io), 15 PTE2 (io), 16 PTE3 (io), 17 PTE4 (io), 18 PTE5 (io), 19 PTE6 (io), 20 PTE7 (io), 21 VSS (power), 22 VDD (power), 23 PTG0 (io), 24 PTG1 (io), 25 PTG2 (io), 26 PTA0 (io), 27 PTA1 (io), 28 PTA2 (io), 29 PTA3 (io), 30 PTA4 (io), 31 PTA5 (io), 32 PTA6 (io), 33 PTA7 (io), 34 PTB0 (io), 35 PTB1 (io), 36 PTB2 (io), 37 PTB3 (io), 38 PTB4 (io), 39 PTB5 (io), 40 PTB6 (io), 41 PTB7 (io), 42 PTD0 (io), 43 PTD1 (io), 44 VDDA (power), 45 VSSA (power), 46 PTD2 (io), 47 PTD3 (io), 48 PTG3 (io), 49 PTG4 (io), 50 PTD4 (io), 51 PTD5 (io), 52 PTD6 (io), 53 PTD7 (io), 54 VREFH (power), 55 VREFL (power), 56 BKGD/MS (io), 57 PTG5/XTAL (io), 58 PTG6/EXTAL (io), 59 VSS (power), 60 PTC0 (io), 61 PTC1 (io), 62 PTC2 (io), 63 PTC3 (io), 64 PTC5 (io)

## MC9S08AC96xFDE
designator *  value MC9S08AC96xFDE
ki_keywords: NXP S08 Microcontroller; ki_description: 8-bit Flexis Microcontroller, S08 core, 96kB Flash, 6kB RAM, QFN-48; ki_fp_filters: QFN*7x7mm*P0.5mm*; Footprint: Package_DFN_QFN:QFN-48-1EP_7x7mm_P0.5mm_EP5.15x5.15mm; Supplier: http://cache.nxp.com/files/microcontrollers/doc/data_sheet/MC9S08AC128.pdf
footprint QFN-48-1EP_7x7mm_P0.5mm_EP5.15x5.15mm
pins: 1 PTC4 (io), 2 IRQ/TPMCLK (in), 3 ~{{RESET}} (in), 4 PTF0 (io), 5 PTF1 (io), 6 PTF4 (io), 7 PTF5 (io), 8 PTF6 (io), 9 PTE0 (io), 10 PTE1 (io), 11 PTE2 (io), 12 PTE3 (io), 13 PTE4 (io), 14 PTE5 (io), 15 PTE6 (io), 16 PTE7 (io), 17 VSS (power), 18 VDD (power), 19 PTG0 (io), 20 PTG1 (io), 21 PTG2 (io), 22 PTA0 (io), 23 PTA1 (io), 24 PTA2 (io), 25 PTA7 (io), 26 PTB0 (io), 27 PTB1 (io), 28 PTB2 (io), 29 PTB3 (io), 30 PTD0 (io), 31 PTD1 (io), 32 VDDA (power), 33 VSSA (power), 34 PTD2 (io), 35 PTD3 (io), 36 PTG3 (io), 37 PTG4 (io), 38 VREFH (power), 39 VREFL (power), 40 BKGD/MS (io), 41 PTG5/XTAL (io), 42 PTG6/EXTAL (io), 43 VSS (power), 44 PTC0 (io), 45 PTC1 (io), 46 PTC2 (io), 47 PTC3 (io), 48 PTC5 (io)

## MC9S08AC96xFGE
designator *  value MC9S08AC96xFGE
ki_keywords: NXP S08 Microcontroller; ki_description: 8-bit Flexis Microcontroller, S08 core, 96kB Flash, 6kB RAM, LQFP-44; ki_fp_filters: LQFP*10x10mm*P0.8mm*; Footprint: Package_QFP:LQFP-44_10x10mm_P0.8mm; Supplier: http://cache.nxp.com/files/microcontrollers/doc/data_sheet/MC9S08AC128.pdf
footprint LQFP-44_10x10mm_P0.8mm
pins: 1 PTC4 (io), 2 IRQ/TPMCLK (in), 3 ~{{RESET}} (in), 4 PTF0 (io), 5 PTF1 (io), 6 PTF4 (io), 7 PTF5 (io), 8 PTE0 (io), 9 PTE1 (io), 10 PTE2 (io), 11 PTE3 (io), 12 PTE4 (io), 13 PTE5 (io), 14 PTE6 (io), 15 PTE7 (io), 16 VSS (power), 17 VDD (power), 18 PTG0 (io), 19 PTG1 (io), 20 PTG2 (io), 21 PTA0 (io), 22 PTA1 (io), 23 PTB0 (io), 24 PTB1 (io), 25 PTB2 (io), 26 PTB3 (io), 27 PTD0 (io), 28 PTD1 (io), 29 VDDA (power), 30 VSSA (power), 31 PTD2 (io), 32 PTD3 (io), 33 PTG3 (io), 34 VREFH (power), 35 VREFL (power), 36 BKGD/MS (io), 41 PTG5/XTAL (io), 42 PTG6/EXTAL (io), 43 VSS (power), 44 PTC0 (io), 45 PTC1 (io), 46 PTC2 (io), 47 PTC3 (io), 48 PTC5 (io)

## MC9S08AC96xFUE
designator *  value MC9S08AC96xFUE
ki_keywords: NXP S08 Microcontroller; ki_description: 8-bit Flexis Microcontroller, S08 core, 96kB Flash, 6kB RAM, LQFP-64; ki_fp_filters: LQFP*14x14mm*P0.8mm*; Footprint: Package_QFP:LQFP-64_14x14mm_P0.8mm; Supplier: http://cache.nxp.com/files/microcontrollers/doc/data_sheet/MC9S08AC128.pdf
footprint LQFP-64_14x14mm_P0.8mm
pins: 1 PTC4 (io), 2 IRQ/TPMCLK (in), 3 ~{{RESET}} (in), 4 PTF0 (io), 5 PTF1 (io), 6 PTF2 (io), 7 PTF3 (io), 8 PTF4 (io), 9 PTC6 (io), 10 PTF7 (io), 11 PTF5 (io), 12 PTF6 (io), 13 PTE0 (io), 14 PTE1 (io), 15 PTE2 (io), 16 PTE3 (io), 17 PTE4 (io), 18 PTE5 (io), 19 PTE6 (io), 20 PTE7 (io), 21 VSS (power), 22 VDD (power), 23 PTG0 (io), 24 PTG1 (io), 25 PTG2 (io), 26 PTA0 (io), 27 PTA1 (io), 28 PTA2 (io), 29 PTA3 (io), 30 PTA4 (io), 31 PTA5 (io), 32 PTA6 (io), 33 PTA7 (io), 34 PTB0 (io), 35 PTB1 (io), 36 PTB2 (io), 37 PTB3 (io), 38 PTB4 (io), 39 PTB5 (io), 40 PTB6 (io), 41 PTB7 (io), 42 PTD0 (io), 43 PTD1 (io), 44 VDDA (power), 45 VSSA (power), 46 PTD2 (io), 47 PTD3 (io), 48 PTG3 (io), 49 PTG4 (io), 50 PTD4 (io), 51 PTD5 (io), 52 PTD6 (io), 53 PTD7 (io), 54 VREFH (power), 55 VREFL (power), 56 BKGD/MS (io), 57 PTG5/XTAL (io), 58 PTG6/EXTAL (io), 59 VSS (power), 60 PTC0 (io), 61 PTC1 (io), 62 PTC2 (io), 63 PTC3 (io), 64 PTC5 (io)

## MC9S08AC96xLKE
designator *  value MC9S08AC96xLKE
ki_keywords: NXP S08 Microcontroller; ki_description: 8-bit Flexis Microcontroller, S08 core, 96kB Flash, 6kB RAM, LQFP-80; ki_fp_filters: LQFP*12x12mm*P0.5mm*; Footprint: Package_QFP:LQFP-80_12x12mm_P0.5mm; Supplier: http://cache.nxp.com/files/microcontrollers/doc/data_sheet/MC9S08AC128.pdf
footprint LQFP-80_12x12mm_P0.5mm
pins: 1 PTC4 (io), 2 IRQ/TPMCLK (in), 3 ~{{RESET}} (in), 4 PTF0 (io), 5 PTF1 (io), 6 PTF2 (io), 7 PTF3 (io), 8 PTF4 (io), 9 PTC6 (io), 10 PTF7 (io), 11 PTF5 (io), 12 PTF6 (io), 13 PTJ0 (io), 14 PTJ1 (io), 15 PTJ2 (io), 16 PTJ3 (io), 17 PTE0 (io), 18 PTE1 (io), 19 PTE2 (io), 20 PTE3 (io), 21 PTE4 (io), 22 PTE5 (io), 23 PTE6 (io), 24 PTE7 (io), 25 VSS (power), 26 VDD (power), 27 PTJ4 (io), 28 PTJ5 (io), 29 PTJ6 (io), 30 PTJ7 (io), 31 PTG0 (io), 32 PTG1 (io), 33 PTG2 (io), 34 PTA0 (io), 35 PTA1 (io), 36 PTA2 (io), 37 PTA3 (io), 38 PTA4 (io), 39 PTA5 (io), 40 PTA6 (io), 41 PTA7 (io), 42 PTH0 (io), 43 PTH1 (io), 44 PTH2 (io), 45 PTH3 (io), 46 PTB0 (io), 47 PTB1 (io), 48 PTB2 (io), 49 PTB3 (io), 50 PTB4 (io), 51 PTB5 (io), 52 PTB6 (io), 53 PTB7 (io), 54 PTD0 (io), 55 PTD1 (io), 56 VDDA (power), 57 VSSA (power), 58 PTD2 (io), 59 PTD3 (io), 60 PTG3 (io), 61 PTG4 (io), 62 PTD4 (io), 63 PTD5 (io), 64 PTD6 (io), 65 PTD7 (io), 66 VREFH (power), 67 VREFL (power), 68 BKGD/MS (io), 69 PTG5/XTAL (io), 70 PTG6/EXTAL (io), 71 VSS (power), 72 VDD (power), 73 PTC0 (io), 74 PTC1 (io), 75 PTH4 (io), 76 PTH5 (io), 77 PTH6 (io), 78 PTC2 (io), 79 PTC3 (io), 80 PTC5 (io)

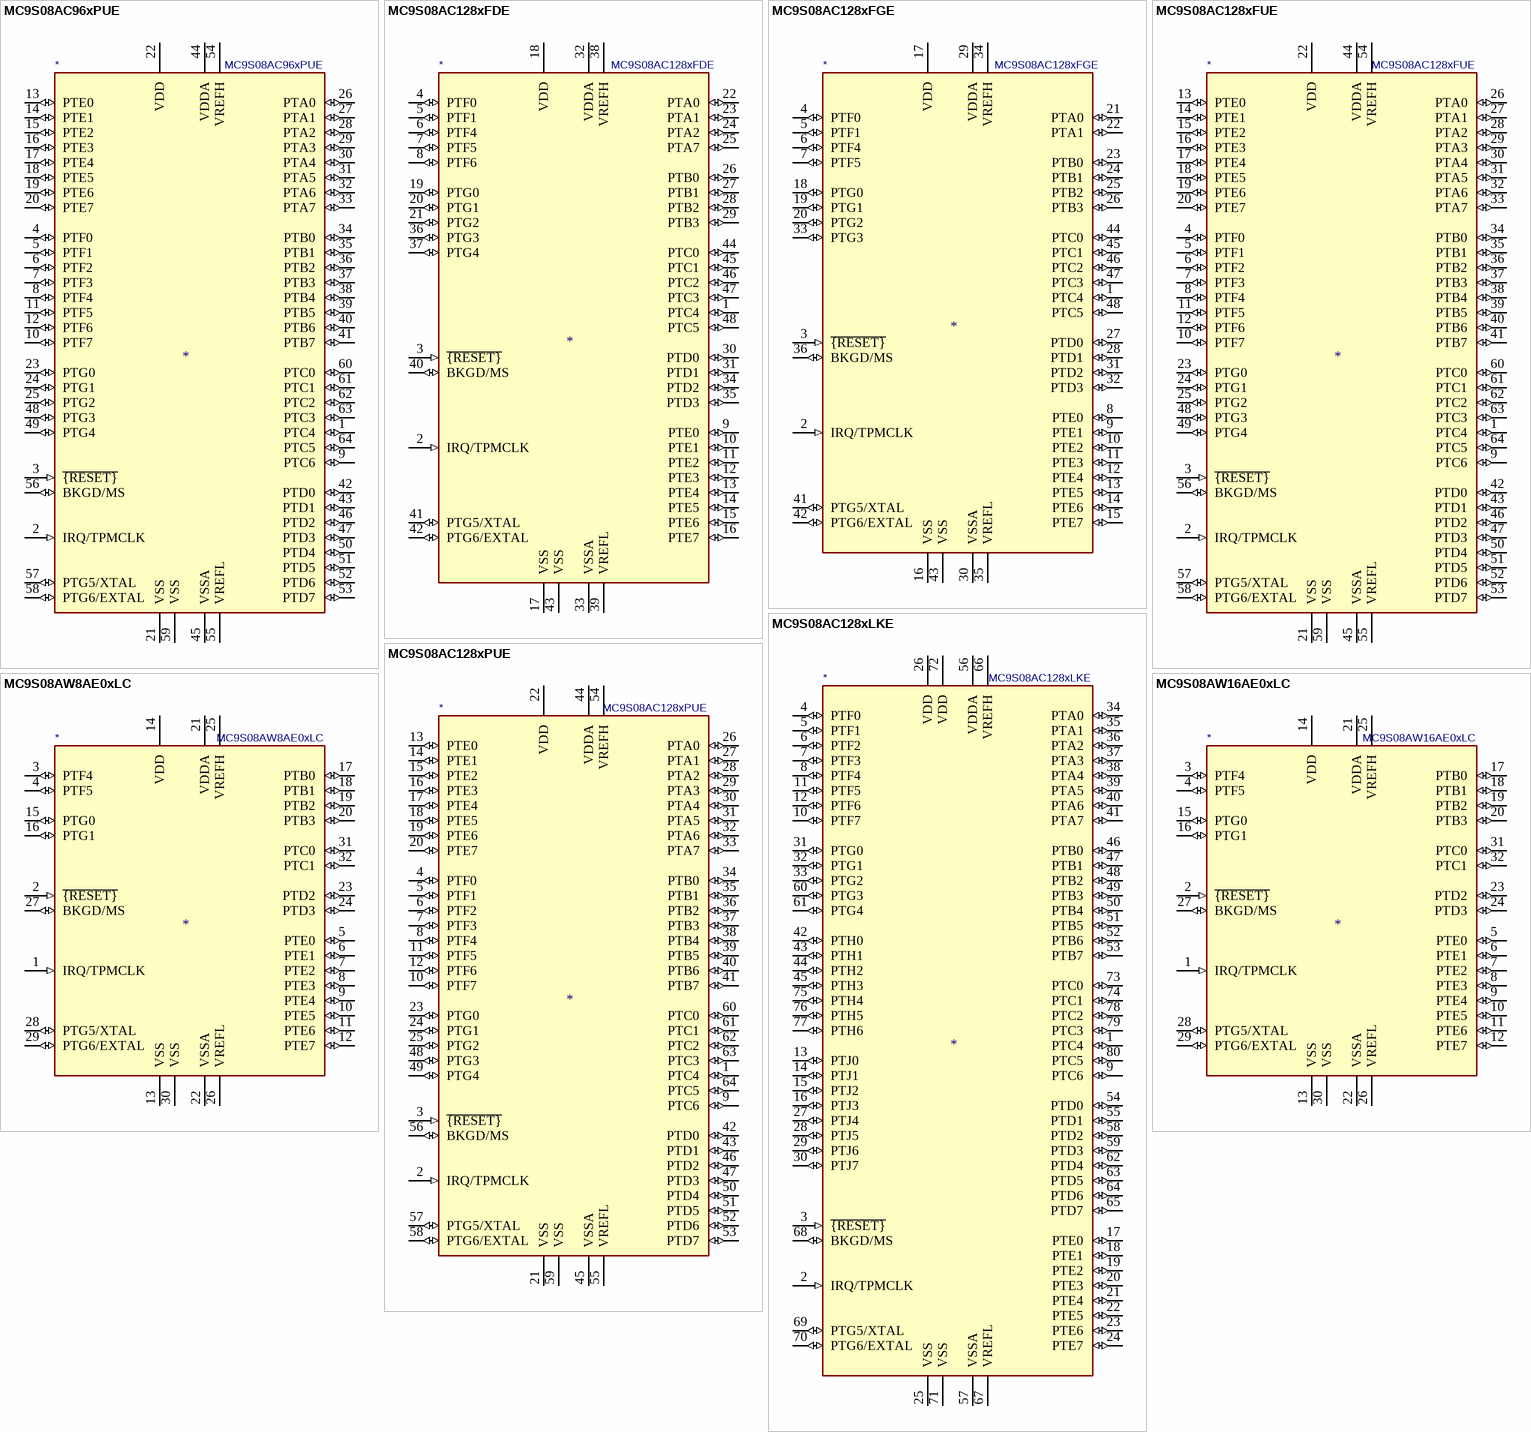
[diagram p3: symbols MC9S08AC96xPUE to MC9S08AW16AE0xLC]

## MC9S08AC96xPUE
designator *  value MC9S08AC96xPUE
ki_keywords: NXP S08 Microcontroller; ki_description: 8-bit Flexis Microcontroller, S08 core, 96kB Flash, 6kB RAM, LQFP-64; ki_fp_filters: LQFP*10x10mm*P0.5mm*; Footprint: Package_QFP:LQFP-64_10x10mm_P0.5mm; Supplier: http://cache.nxp.com/files/microcontrollers/doc/data_sheet/MC9S08AC128.pdf
footprint LQFP-64_10x10mm_P0.5mm
pins: 1 PTC4 (io), 2 IRQ/TPMCLK (in), 3 ~{{RESET}} (in), 4 PTF0 (io), 5 PTF1 (io), 6 PTF2 (io), 7 PTF3 (io), 8 PTF4 (io), 9 PTC6 (io), 10 PTF7 (io), 11 PTF5 (io), 12 PTF6 (io), 13 PTE0 (io), 14 PTE1 (io), 15 PTE2 (io), 16 PTE3 (io), 17 PTE4 (io), 18 PTE5 (io), 19 PTE6 (io), 20 PTE7 (io), 21 VSS (power), 22 VDD (power), 23 PTG0 (io), 24 PTG1 (io), 25 PTG2 (io), 26 PTA0 (io), 27 PTA1 (io), 28 PTA2 (io), 29 PTA3 (io), 30 PTA4 (io), 31 PTA5 (io), 32 PTA6 (io), 33 PTA7 (io), 34 PTB0 (io), 35 PTB1 (io), 36 PTB2 (io), 37 PTB3 (io), 38 PTB4 (io), 39 PTB5 (io), 40 PTB6 (io), 41 PTB7 (io), 42 PTD0 (io), 43 PTD1 (io), 44 VDDA (power), 45 VSSA (power), 46 PTD2 (io), 47 PTD3 (io), 48 PTG3 (io), 49 PTG4 (io), 50 PTD4 (io), 51 PTD5 (io), 52 PTD6 (io), 53 PTD7 (io), 54 VREFH (power), 55 VREFL (power), 56 BKGD/MS (io), 57 PTG5/XTAL (io), 58 PTG6/EXTAL (io), 59 VSS (power), 60 PTC0 (io), 61 PTC1 (io), 62 PTC2 (io), 63 PTC3 (io), 64 PTC5 (io)

## MC9S08AC128xFDE
designator *  value MC9S08AC128xFDE
ki_keywords: NXP S08 Microcontroller; ki_description: 8-bit Flexis Microcontroller, S08 core, 128kB Flash, 8kB RAM, QFN-48; ki_fp_filters: QFN*7x7mm*P0.5mm*; Footprint: Package_DFN_QFN:QFN-48-1EP_7x7mm_P0.5mm_EP5.15x5.15mm; Supplier: http://cache.nxp.com/files/microcontrollers/doc/data_sheet/MC9S08AC128.pdf
footprint QFN-48-1EP_7x7mm_P0.5mm_EP5.15x5.15mm
pins: 1 PTC4 (io), 2 IRQ/TPMCLK (in), 3 ~{{RESET}} (in), 4 PTF0 (io), 5 PTF1 (io), 6 PTF4 (io), 7 PTF5 (io), 8 PTF6 (io), 9 PTE0 (io), 10 PTE1 (io), 11 PTE2 (io), 12 PTE3 (io), 13 PTE4 (io), 14 PTE5 (io), 15 PTE6 (io), 16 PTE7 (io), 17 VSS (power), 18 VDD (power), 19 PTG0 (io), 20 PTG1 (io), 21 PTG2 (io), 22 PTA0 (io), 23 PTA1 (io), 24 PTA2 (io), 25 PTA7 (io), 26 PTB0 (io), 27 PTB1 (io), 28 PTB2 (io), 29 PTB3 (io), 30 PTD0 (io), 31 PTD1 (io), 32 VDDA (power), 33 VSSA (power), 34 PTD2 (io), 35 PTD3 (io), 36 PTG3 (io), 37 PTG4 (io), 38 VREFH (power), 39 VREFL (power), 40 BKGD/MS (io), 41 PTG5/XTAL (io), 42 PTG6/EXTAL (io), 43 VSS (power), 44 PTC0 (io), 45 PTC1 (io), 46 PTC2 (io), 47 PTC3 (io), 48 PTC5 (io)

## MC9S08AC128xFGE
designator *  value MC9S08AC128xFGE
ki_keywords: NXP S08 Microcontroller; ki_description: 8-bit Flexis Microcontroller, S08 core, 128kB Flash, 8kB RAM, LQFP-44; ki_fp_filters: LQFP*10x10mm*P0.8mm*; Footprint: Package_QFP:LQFP-44_10x10mm_P0.8mm; Supplier: http://cache.nxp.com/files/microcontrollers/doc/data_sheet/MC9S08AC128.pdf
footprint LQFP-44_10x10mm_P0.8mm
pins: 1 PTC4 (io), 2 IRQ/TPMCLK (in), 3 ~{{RESET}} (in), 4 PTF0 (io), 5 PTF1 (io), 6 PTF4 (io), 7 PTF5 (io), 8 PTE0 (io), 9 PTE1 (io), 10 PTE2 (io), 11 PTE3 (io), 12 PTE4 (io), 13 PTE5 (io), 14 PTE6 (io), 15 PTE7 (io), 16 VSS (power), 17 VDD (power), 18 PTG0 (io), 19 PTG1 (io), 20 PTG2 (io), 21 PTA0 (io), 22 PTA1 (io), 23 PTB0 (io), 24 PTB1 (io), 25 PTB2 (io), 26 PTB3 (io), 27 PTD0 (io), 28 PTD1 (io), 29 VDDA (power), 30 VSSA (power), 31 PTD2 (io), 32 PTD3 (io), 33 PTG3 (io), 34 VREFH (power), 35 VREFL (power), 36 BKGD/MS (io), 41 PTG5/XTAL (io), 42 PTG6/EXTAL (io), 43 VSS (power), 44 PTC0 (io), 45 PTC1 (io), 46 PTC2 (io), 47 PTC3 (io), 48 PTC5 (io)

## MC9S08AC128xFUE
designator *  value MC9S08AC128xFUE
ki_keywords: NXP S08 Microcontroller; ki_description: 8-bit Flexis Microcontroller, S08 core, 128kB Flash, 8kB RAM, LQFP-64; ki_fp_filters: LQFP*14x14mm*P0.8mm*; Footprint: Package_QFP:LQFP-64_14x14mm_P0.8mm; Supplier: http://cache.nxp.com/files/microcontrollers/doc/data_sheet/MC9S08AC128.pdf
footprint LQFP-64_14x14mm_P0.8mm
pins: 1 PTC4 (io), 2 IRQ/TPMCLK (in), 3 ~{{RESET}} (in), 4 PTF0 (io), 5 PTF1 (io), 6 PTF2 (io), 7 PTF3 (io), 8 PTF4 (io), 9 PTC6 (io), 10 PTF7 (io), 11 PTF5 (io), 12 PTF6 (io), 13 PTE0 (io), 14 PTE1 (io), 15 PTE2 (io), 16 PTE3 (io), 17 PTE4 (io), 18 PTE5 (io), 19 PTE6 (io), 20 PTE7 (io), 21 VSS (power), 22 VDD (power), 23 PTG0 (io), 24 PTG1 (io), 25 PTG2 (io), 26 PTA0 (io), 27 PTA1 (io), 28 PTA2 (io), 29 PTA3 (io), 30 PTA4 (io), 31 PTA5 (io), 32 PTA6 (io), 33 PTA7 (io), 34 PTB0 (io), 35 PTB1 (io), 36 PTB2 (io), 37 PTB3 (io), 38 PTB4 (io), 39 PTB5 (io), 40 PTB6 (io), 41 PTB7 (io), 42 PTD0 (io), 43 PTD1 (io), 44 VDDA (power), 45 VSSA (power), 46 PTD2 (io), 47 PTD3 (io), 48 PTG3 (io), 49 PTG4 (io), 50 PTD4 (io), 51 PTD5 (io), 52 PTD6 (io), 53 PTD7 (io), 54 VREFH (power), 55 VREFL (power), 56 BKGD/MS (io), 57 PTG5/XTAL (io), 58 PTG6/EXTAL (io), 59 VSS (power), 60 PTC0 (io), 61 PTC1 (io), 62 PTC2 (io), 63 PTC3 (io), 64 PTC5 (io)

## MC9S08AC128xLKE
designator *  value MC9S08AC128xLKE
ki_keywords: NXP S08 Microcontroller; ki_description: 8-bit Flexis Microcontroller, S08 core, 128kB Flash, 8kB RAM, LQFP-80; ki_fp_filters: LQFP*12x12mm*P0.5mm*; Footprint: Package_QFP:LQFP-80_12x12mm_P0.5mm; Supplier: http://cache.nxp.com/files/microcontrollers/doc/data_sheet/MC9S08AC128.pdf
footprint LQFP-80_12x12mm_P0.5mm
pins: 1 PTC4 (io), 2 IRQ/TPMCLK (in), 3 ~{{RESET}} (in), 4 PTF0 (io), 5 PTF1 (io), 6 PTF2 (io), 7 PTF3 (io), 8 PTF4 (io), 9 PTC6 (io), 10 PTF7 (io), 11 PTF5 (io), 12 PTF6 (io), 13 PTJ0 (io), 14 PTJ1 (io), 15 PTJ2 (io), 16 PTJ3 (io), 17 PTE0 (io), 18 PTE1 (io), 19 PTE2 (io), 20 PTE3 (io), 21 PTE4 (io), 22 PTE5 (io), 23 PTE6 (io), 24 PTE7 (io), 25 VSS (power), 26 VDD (power), 27 PTJ4 (io), 28 PTJ5 (io), 29 PTJ6 (io), 30 PTJ7 (io), 31 PTG0 (io), 32 PTG1 (io), 33 PTG2 (io), 34 PTA0 (io), 35 PTA1 (io), 36 PTA2 (io), 37 PTA3 (io), 38 PTA4 (io), 39 PTA5 (io), 40 PTA6 (io), 41 PTA7 (io), 42 PTH0 (io), 43 PTH1 (io), 44 PTH2 (io), 45 PTH3 (io), 46 PTB0 (io), 47 PTB1 (io), 48 PTB2 (io), 49 PTB3 (io), 50 PTB4 (io), 51 PTB5 (io), 52 PTB6 (io), 53 PTB7 (io), 54 PTD0 (io), 55 PTD1 (io), 56 VDDA (power), 57 VSSA (power), 58 PTD2 (io), 59 PTD3 (io), 60 PTG3 (io), 61 PTG4 (io), 62 PTD4 (io), 63 PTD5 (io), 64 PTD6 (io), 65 PTD7 (io), 66 VREFH (power), 67 VREFL (power), 68 BKGD/MS (io), 69 PTG5/XTAL (io), 70 PTG6/EXTAL (io), 71 VSS (power), 72 VDD (power), 73 PTC0 (io), 74 PTC1 (io), 75 PTH4 (io), 76 PTH5 (io), 77 PTH6 (io), 78 PTC2 (io), 79 PTC3 (io), 80 PTC5 (io)

## MC9S08AC128xPUE
designator *  value MC9S08AC128xPUE
ki_keywords: NXP S08 Microcontroller; ki_description: 8-bit Flexis Microcontroller, S08 core, 128kB Flash, 8kB RAM, LQFP-64; ki_fp_filters: LQFP*10x10mm*P0.5mm*; Footprint: Package_QFP:LQFP-64_10x10mm_P0.5mm; Supplier: http://cache.nxp.com/files/microcontrollers/doc/data_sheet/MC9S08AC128.pdf
footprint LQFP-64_10x10mm_P0.5mm
pins: 1 PTC4 (io), 2 IRQ/TPMCLK (in), 3 ~{{RESET}} (in), 4 PTF0 (io), 5 PTF1 (io), 6 PTF2 (io), 7 PTF3 (io), 8 PTF4 (io), 9 PTC6 (io), 10 PTF7 (io), 11 PTF5 (io), 12 PTF6 (io), 13 PTE0 (io), 14 PTE1 (io), 15 PTE2 (io), 16 PTE3 (io), 17 PTE4 (io), 18 PTE5 (io), 19 PTE6 (io), 20 PTE7 (io), 21 VSS (power), 22 VDD (power), 23 PTG0 (io), 24 PTG1 (io), 25 PTG2 (io), 26 PTA0 (io), 27 PTA1 (io), 28 PTA2 (io), 29 PTA3 (io), 30 PTA4 (io), 31 PTA5 (io), 32 PTA6 (io), 33 PTA7 (io), 34 PTB0 (io), 35 PTB1 (io), 36 PTB2 (io), 37 PTB3 (io), 38 PTB4 (io), 39 PTB5 (io), 40 PTB6 (io), 41 PTB7 (io), 42 PTD0 (io), 43 PTD1 (io), 44 VDDA (power), 45 VSSA (power), 46 PTD2 (io), 47 PTD3 (io), 48 PTG3 (io), 49 PTG4 (io), 50 PTD4 (io), 51 PTD5 (io), 52 PTD6 (io), 53 PTD7 (io), 54 VREFH (power), 55 VREFL (power), 56 BKGD/MS (io), 57 PTG5/XTAL (io), 58 PTG6/EXTAL (io), 59 VSS (power), 60 PTC0 (io), 61 PTC1 (io), 62 PTC2 (io), 63 PTC3 (io), 64 PTC5 (io)

## MC9S08AW8AE0xLC
designator *  value MC9S08AW8AE0xLC
ki_keywords: NXP S08 Microcontroller; ki_description: 8-bit General Purpose Microcontroller, S08 core, 8kB Flash, 768B RAM, LQFP-32; ki_fp_filters: LQFP*7x7mm*P0.8mm*; Footprint: Package_QFP:LQFP-32_7x7mm_P0.8mm; Supplier: http://cache.nxp.com/files/microcontrollers/doc/data_sheet/MC9S08AC60.pdf
footprint LQFP-32_7x7mm_P0.8mm
pins: 1 IRQ/TPMCLK (in), 2 ~{{RESET}} (in), 3 PTF4 (io), 4 PTF5 (io), 5 PTE0 (io), 6 PTE1 (io), 7 PTE2 (io), 8 PTE3 (io), 9 PTE4 (io), 10 PTE5 (io), 11 PTE6 (io), 12 PTE7 (io), 13 VSS (power), 14 VDD (power), 15 PTG0 (io), 16 PTG1 (io), 17 PTB0 (io), 18 PTB1 (io), 19 PTB2 (io), 20 PTB3 (io), 21 VDDA (power), 22 VSSA (power), 23 PTD2 (io), 24 PTD3 (io), 25 VREFH (power), 26 VREFL (power), 27 BKGD/MS (io), 28 PTG5/XTAL (io), 29 PTG6/EXTAL (io), 30 VSS (power), 31 PTC0 (io), 32 PTC1 (io)

## MC9S08AW16AE0xLC
designator *  value MC9S08AW16AE0xLC
ki_keywords: NXP S08 Microcontroller; ki_description: 8-bit General Purpose Microcontroller, S08 core, 96kB Flash, 6kB RAM, LQFP-32; ki_fp_filters: LQFP*7x7mm*P0.8mm*; Footprint: Package_QFP:LQFP-32_7x7mm_P0.8mm; Supplier: http://cache.nxp.com/files/microcontrollers/doc/data_sheet/MC9S08AC60.pdf
footprint LQFP-32_7x7mm_P0.8mm
pins: 1 IRQ/TPMCLK (in), 2 ~{{RESET}} (in), 3 PTF4 (io), 4 PTF5 (io), 5 PTE0 (io), 6 PTE1 (io), 7 PTE2 (io), 8 PTE3 (io), 9 PTE4 (io), 10 PTE5 (io), 11 PTE6 (io), 12 PTE7 (io), 13 VSS (power), 14 VDD (power), 15 PTG0 (io), 16 PTG1 (io), 17 PTB0 (io), 18 PTB1 (io), 19 PTB2 (io), 20 PTB3 (io), 21 VDDA (power), 22 VSSA (power), 23 PTD2 (io), 24 PTD3 (io), 25 VREFH (power), 26 VREFL (power), 27 BKGD/MS (io), 28 PTG5/XTAL (io), 29 PTG6/EXTAL (io), 30 VSS (power), 31 PTC0 (io), 32 PTC1 (io)

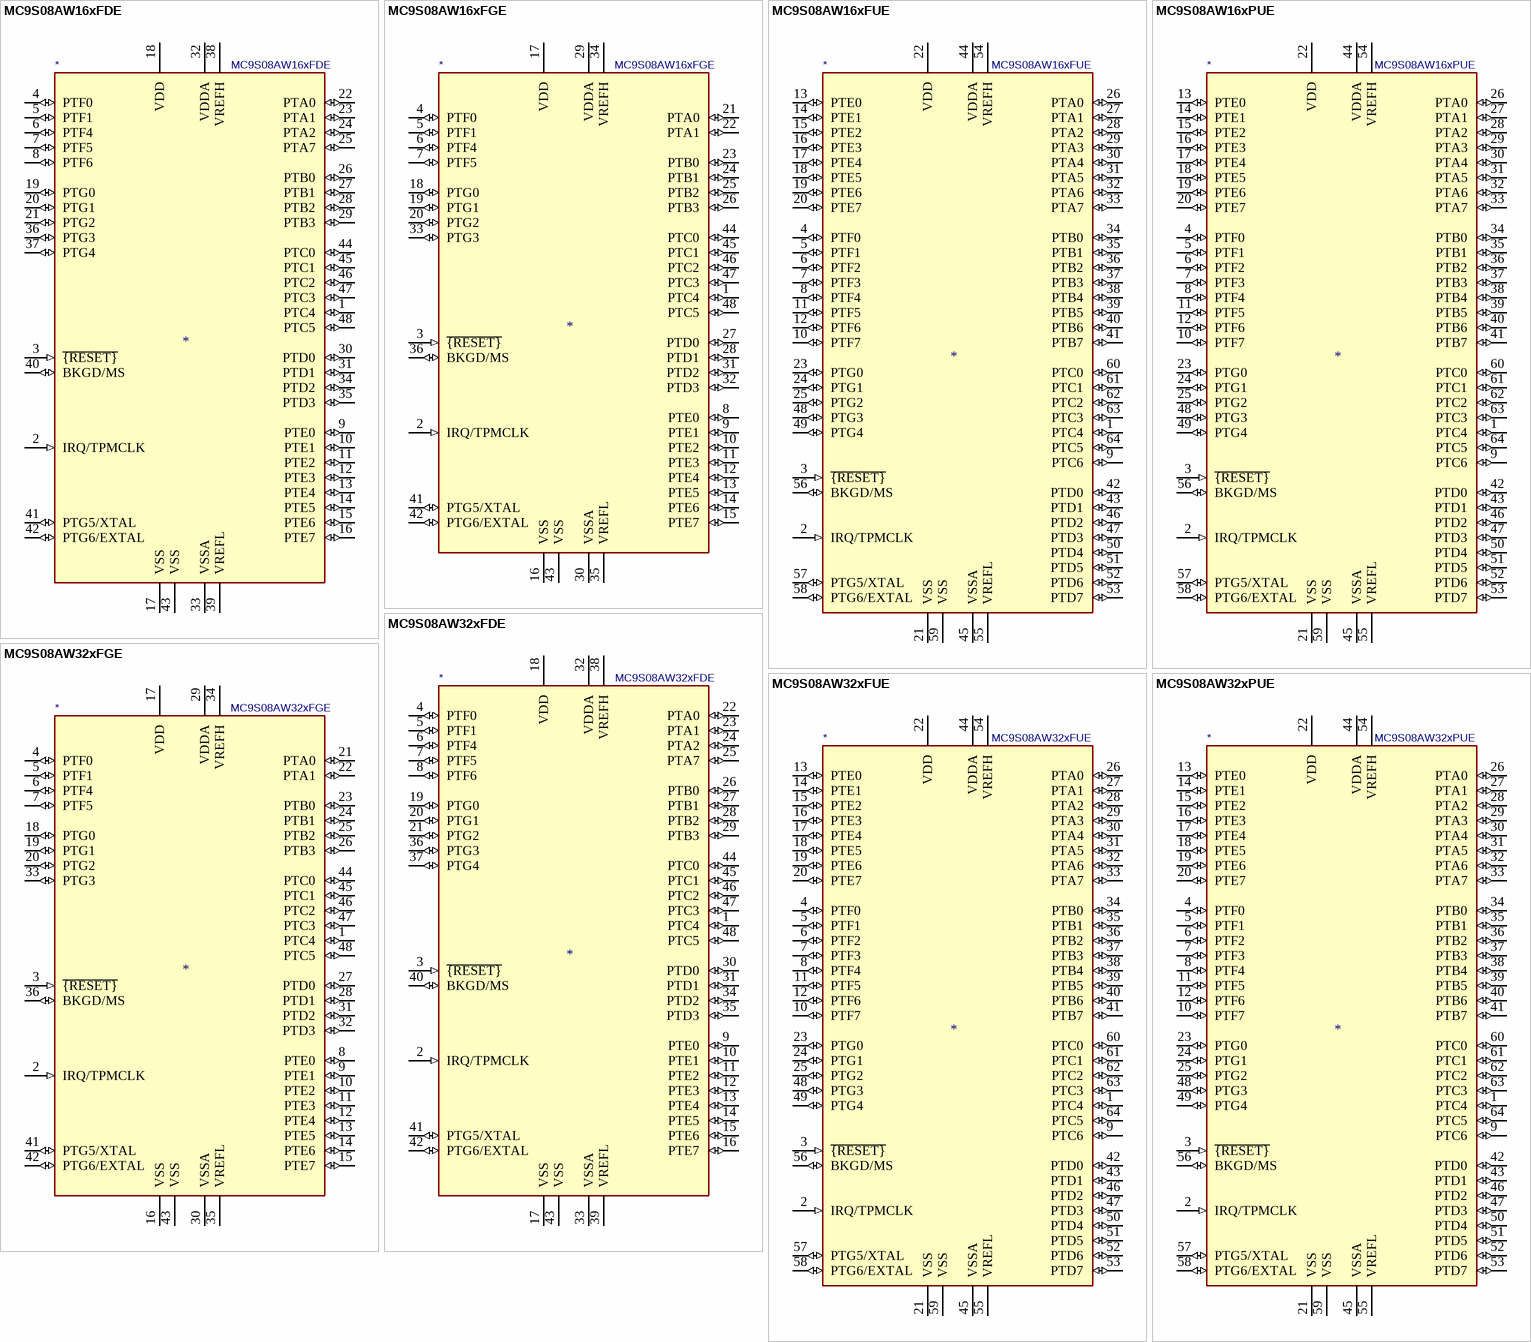
[diagram p4: symbols MC9S08AW16xFDE to MC9S08AW32xPUE]

## MC9S08AW16xFDE
designator *  value MC9S08AW16xFDE
ki_keywords: NXP S08 Microcontroller; ki_description: 8-bit General Purpose Microcontroller, S08 core, 16kB Flash, 1kB RAM, QFN-48; ki_fp_filters: QFN*7x7mm*P0.5mm*; Footprint: Package_DFN_QFN:QFN-48-1EP_7x7mm_P0.5mm_EP5.15x5.15mm; Supplier: http://cache.nxp.com/files/microcontrollers/doc/data_sheet/MC9S08AW60.pdf
footprint QFN-48-1EP_7x7mm_P0.5mm_EP5.15x5.15mm
pins: 1 PTC4 (io), 2 IRQ/TPMCLK (in), 3 ~{{RESET}} (in), 4 PTF0 (io), 5 PTF1 (io), 6 PTF4 (io), 7 PTF5 (io), 8 PTF6 (io), 9 PTE0 (io), 10 PTE1 (io), 11 PTE2 (io), 12 PTE3 (io), 13 PTE4 (io), 14 PTE5 (io), 15 PTE6 (io), 16 PTE7 (io), 17 VSS (power), 18 VDD (power), 19 PTG0 (io), 20 PTG1 (io), 21 PTG2 (io), 22 PTA0 (io), 23 PTA1 (io), 24 PTA2 (io), 25 PTA7 (io), 26 PTB0 (io), 27 PTB1 (io), 28 PTB2 (io), 29 PTB3 (io), 30 PTD0 (io), 31 PTD1 (io), 32 VDDA (power), 33 VSSA (power), 34 PTD2 (io), 35 PTD3 (io), 36 PTG3 (io), 37 PTG4 (io), 38 VREFH (power), 39 VREFL (power), 40 BKGD/MS (io), 41 PTG5/XTAL (io), 42 PTG6/EXTAL (io), 43 VSS (power), 44 PTC0 (io), 45 PTC1 (io), 46 PTC2 (io), 47 PTC3 (io), 48 PTC5 (io)

## MC9S08AW16xFGE
designator *  value MC9S08AW16xFGE
ki_keywords: NXP S08 Microcontroller; ki_description: 8-bit General Purpose Microcontroller, S08 core, 16kB Flash, 1kB RAM, LQFP-44; ki_fp_filters: LQFP*10x10mm*P0.8mm*; Footprint: Package_QFP:LQFP-44_10x10mm_P0.8mm; Supplier: http://cache.nxp.com/files/microcontrollers/doc/data_sheet/MC9S08AW60.pdf
footprint LQFP-44_10x10mm_P0.8mm
pins: 1 PTC4 (io), 2 IRQ/TPMCLK (in), 3 ~{{RESET}} (in), 4 PTF0 (io), 5 PTF1 (io), 6 PTF4 (io), 7 PTF5 (io), 8 PTE0 (io), 9 PTE1 (io), 10 PTE2 (io), 11 PTE3 (io), 12 PTE4 (io), 13 PTE5 (io), 14 PTE6 (io), 15 PTE7 (io), 16 VSS (power), 17 VDD (power), 18 PTG0 (io), 19 PTG1 (io), 20 PTG2 (io), 21 PTA0 (io), 22 PTA1 (io), 23 PTB0 (io), 24 PTB1 (io), 25 PTB2 (io), 26 PTB3 (io), 27 PTD0 (io), 28 PTD1 (io), 29 VDDA (power), 30 VSSA (power), 31 PTD2 (io), 32 PTD3 (io), 33 PTG3 (io), 34 VREFH (power), 35 VREFL (power), 36 BKGD/MS (io), 41 PTG5/XTAL (io), 42 PTG6/EXTAL (io), 43 VSS (power), 44 PTC0 (io), 45 PTC1 (io), 46 PTC2 (io), 47 PTC3 (io), 48 PTC5 (io)

## MC9S08AW16xFUE
designator *  value MC9S08AW16xFUE
ki_keywords: NXP S08 Microcontroller; ki_description: 8-bit General Purpose Microcontroller, S08 core, 16kB Flash, 1kB RAM, LQFP-64; ki_fp_filters: LQFP*14x14mm*P0.8mm*; Footprint: Package_QFP:LQFP-64_14x14mm_P0.8mm; Supplier: http://cache.nxp.com/files/microcontrollers/doc/data_sheet/MC9S08AW60.pdf
footprint LQFP-64_14x14mm_P0.8mm
pins: 1 PTC4 (io), 2 IRQ/TPMCLK (in), 3 ~{{RESET}} (in), 4 PTF0 (io), 5 PTF1 (io), 6 PTF2 (io), 7 PTF3 (io), 8 PTF4 (io), 9 PTC6 (io), 10 PTF7 (io), 11 PTF5 (io), 12 PTF6 (io), 13 PTE0 (io), 14 PTE1 (io), 15 PTE2 (io), 16 PTE3 (io), 17 PTE4 (io), 18 PTE5 (io), 19 PTE6 (io), 20 PTE7 (io), 21 VSS (power), 22 VDD (power), 23 PTG0 (io), 24 PTG1 (io), 25 PTG2 (io), 26 PTA0 (io), 27 PTA1 (io), 28 PTA2 (io), 29 PTA3 (io), 30 PTA4 (io), 31 PTA5 (io), 32 PTA6 (io), 33 PTA7 (io), 34 PTB0 (io), 35 PTB1 (io), 36 PTB2 (io), 37 PTB3 (io), 38 PTB4 (io), 39 PTB5 (io), 40 PTB6 (io), 41 PTB7 (io), 42 PTD0 (io), 43 PTD1 (io), 44 VDDA (power), 45 VSSA (power), 46 PTD2 (io), 47 PTD3 (io), 48 PTG3 (io), 49 PTG4 (io), 50 PTD4 (io), 51 PTD5 (io), 52 PTD6 (io), 53 PTD7 (io), 54 VREFH (power), 55 VREFL (power), 56 BKGD/MS (io), 57 PTG5/XTAL (io), 58 PTG6/EXTAL (io), 59 VSS (power), 60 PTC0 (io), 61 PTC1 (io), 62 PTC2 (io), 63 PTC3 (io), 64 PTC5 (io)

## MC9S08AW16xPUE
designator *  value MC9S08AW16xPUE
ki_keywords: NXP S08 Microcontroller; ki_description: 8-bit General Purpose Microcontroller, S08 core, 16kB Flash, 1kB RAM, LQFP-64; ki_fp_filters: LQFP*10x10mm*P0.5mm*; Footprint: Package_QFP:LQFP-64_10x10mm_P0.5mm; Supplier: http://cache.nxp.com/files/microcontrollers/doc/data_sheet/MC9S08AW60.pdf
footprint LQFP-64_10x10mm_P0.5mm
pins: 1 PTC4 (io), 2 IRQ/TPMCLK (in), 3 ~{{RESET}} (in), 4 PTF0 (io), 5 PTF1 (io), 6 PTF2 (io), 7 PTF3 (io), 8 PTF4 (io), 9 PTC6 (io), 10 PTF7 (io), 11 PTF5 (io), 12 PTF6 (io), 13 PTE0 (io), 14 PTE1 (io), 15 PTE2 (io), 16 PTE3 (io), 17 PTE4 (io), 18 PTE5 (io), 19 PTE6 (io), 20 PTE7 (io), 21 VSS (power), 22 VDD (power), 23 PTG0 (io), 24 PTG1 (io), 25 PTG2 (io), 26 PTA0 (io), 27 PTA1 (io), 28 PTA2 (io), 29 PTA3 (io), 30 PTA4 (io), 31 PTA5 (io), 32 PTA6 (io), 33 PTA7 (io), 34 PTB0 (io), 35 PTB1 (io), 36 PTB2 (io), 37 PTB3 (io), 38 PTB4 (io), 39 PTB5 (io), 40 PTB6 (io), 41 PTB7 (io), 42 PTD0 (io), 43 PTD1 (io), 44 VDDA (power), 45 VSSA (power), 46 PTD2 (io), 47 PTD3 (io), 48 PTG3 (io), 49 PTG4 (io), 50 PTD4 (io), 51 PTD5 (io), 52 PTD6 (io), 53 PTD7 (io), 54 VREFH (power), 55 VREFL (power), 56 BKGD/MS (io), 57 PTG5/XTAL (io), 58 PTG6/EXTAL (io), 59 VSS (power), 60 PTC0 (io), 61 PTC1 (io), 62 PTC2 (io), 63 PTC3 (io), 64 PTC5 (io)

## MC9S08AW32xFDE
designator *  value MC9S08AW32xFDE
ki_keywords: NXP S08 Microcontroller; ki_description: 8-bit General Purpose Microcontroller, S08 core, 32kB Flash, 2kB RAM, QFN-48; ki_fp_filters: QFN*7x7mm*P0.5mm*; Footprint: Package_DFN_QFN:QFN-48-1EP_7x7mm_P0.5mm_EP5.15x5.15mm; Supplier: http://cache.nxp.com/files/microcontrollers/doc/data_sheet/MC9S08AW60.pdf
footprint QFN-48-1EP_7x7mm_P0.5mm_EP5.15x5.15mm
pins: 1 PTC4 (io), 2 IRQ/TPMCLK (in), 3 ~{{RESET}} (in), 4 PTF0 (io), 5 PTF1 (io), 6 PTF4 (io), 7 PTF5 (io), 8 PTF6 (io), 9 PTE0 (io), 10 PTE1 (io), 11 PTE2 (io), 12 PTE3 (io), 13 PTE4 (io), 14 PTE5 (io), 15 PTE6 (io), 16 PTE7 (io), 17 VSS (power), 18 VDD (power), 19 PTG0 (io), 20 PTG1 (io), 21 PTG2 (io), 22 PTA0 (io), 23 PTA1 (io), 24 PTA2 (io), 25 PTA7 (io), 26 PTB0 (io), 27 PTB1 (io), 28 PTB2 (io), 29 PTB3 (io), 30 PTD0 (io), 31 PTD1 (io), 32 VDDA (power), 33 VSSA (power), 34 PTD2 (io), 35 PTD3 (io), 36 PTG3 (io), 37 PTG4 (io), 38 VREFH (power), 39 VREFL (power), 40 BKGD/MS (io), 41 PTG5/XTAL (io), 42 PTG6/EXTAL (io), 43 VSS (power), 44 PTC0 (io), 45 PTC1 (io), 46 PTC2 (io), 47 PTC3 (io), 48 PTC5 (io)

## MC9S08AW32xFGE
designator *  value MC9S08AW32xFGE
ki_keywords: NXP S08 Microcontroller; ki_description: 8-bit General Purpose Microcontroller, S08 core, 32kB Flash, 2kB RAM, LQFP-44; ki_fp_filters: LQFP*10x10mm*P0.8mm*; Footprint: Package_QFP:LQFP-44_10x10mm_P0.8mm; Supplier: http://cache.nxp.com/files/microcontrollers/doc/data_sheet/MC9S08AW60.pdf
footprint LQFP-44_10x10mm_P0.8mm
pins: 1 PTC4 (io), 2 IRQ/TPMCLK (in), 3 ~{{RESET}} (in), 4 PTF0 (io), 5 PTF1 (io), 6 PTF4 (io), 7 PTF5 (io), 8 PTE0 (io), 9 PTE1 (io), 10 PTE2 (io), 11 PTE3 (io), 12 PTE4 (io), 13 PTE5 (io), 14 PTE6 (io), 15 PTE7 (io), 16 VSS (power), 17 VDD (power), 18 PTG0 (io), 19 PTG1 (io), 20 PTG2 (io), 21 PTA0 (io), 22 PTA1 (io), 23 PTB0 (io), 24 PTB1 (io), 25 PTB2 (io), 26 PTB3 (io), 27 PTD0 (io), 28 PTD1 (io), 29 VDDA (power), 30 VSSA (power), 31 PTD2 (io), 32 PTD3 (io), 33 PTG3 (io), 34 VREFH (power), 35 VREFL (power), 36 BKGD/MS (io), 41 PTG5/XTAL (io), 42 PTG6/EXTAL (io), 43 VSS (power), 44 PTC0 (io), 45 PTC1 (io), 46 PTC2 (io), 47 PTC3 (io), 48 PTC5 (io)

## MC9S08AW32xFUE
designator *  value MC9S08AW32xFUE
ki_keywords: NXP S08 Microcontroller; ki_description: 8-bit General Purpose Microcontroller, S08 core, 32kB Flash, 2kB RAM, LQFP-64; ki_fp_filters: LQFP*14x14mm*P0.8mm*; Footprint: Package_QFP:LQFP-64_14x14mm_P0.8mm; Supplier: http://cache.nxp.com/files/microcontrollers/doc/data_sheet/MC9S08AW60.pdf
footprint LQFP-64_14x14mm_P0.8mm
pins: 1 PTC4 (io), 2 IRQ/TPMCLK (in), 3 ~{{RESET}} (in), 4 PTF0 (io), 5 PTF1 (io), 6 PTF2 (io), 7 PTF3 (io), 8 PTF4 (io), 9 PTC6 (io), 10 PTF7 (io), 11 PTF5 (io), 12 PTF6 (io), 13 PTE0 (io), 14 PTE1 (io), 15 PTE2 (io), 16 PTE3 (io), 17 PTE4 (io), 18 PTE5 (io), 19 PTE6 (io), 20 PTE7 (io), 21 VSS (power), 22 VDD (power), 23 PTG0 (io), 24 PTG1 (io), 25 PTG2 (io), 26 PTA0 (io), 27 PTA1 (io), 28 PTA2 (io), 29 PTA3 (io), 30 PTA4 (io), 31 PTA5 (io), 32 PTA6 (io), 33 PTA7 (io), 34 PTB0 (io), 35 PTB1 (io), 36 PTB2 (io), 37 PTB3 (io), 38 PTB4 (io), 39 PTB5 (io), 40 PTB6 (io), 41 PTB7 (io), 42 PTD0 (io), 43 PTD1 (io), 44 VDDA (power), 45 VSSA (power), 46 PTD2 (io), 47 PTD3 (io), 48 PTG3 (io), 49 PTG4 (io), 50 PTD4 (io), 51 PTD5 (io), 52 PTD6 (io), 53 PTD7 (io), 54 VREFH (power), 55 VREFL (power), 56 BKGD/MS (io), 57 PTG5/XTAL (io), 58 PTG6/EXTAL (io), 59 VSS (power), 60 PTC0 (io), 61 PTC1 (io), 62 PTC2 (io), 63 PTC3 (io), 64 PTC5 (io)

## MC9S08AW32xPUE
designator *  value MC9S08AW32xPUE
ki_keywords: NXP S08 Microcontroller; ki_description: 8-bit General Purpose Microcontroller, S08 core, 32kB Flash, 2kB RAM, LQFP-64; ki_fp_filters: LQFP*10x10mm*P0.5mm*; Footprint: Package_QFP:LQFP-64_10x10mm_P0.5mm; Supplier: http://cache.nxp.com/files/microcontrollers/doc/data_sheet/MC9S08AW60.pdf
footprint LQFP-64_10x10mm_P0.5mm
pins: 1 PTC4 (io), 2 IRQ/TPMCLK (in), 3 ~{{RESET}} (in), 4 PTF0 (io), 5 PTF1 (io), 6 PTF2 (io), 7 PTF3 (io), 8 PTF4 (io), 9 PTC6 (io), 10 PTF7 (io), 11 PTF5 (io), 12 PTF6 (io), 13 PTE0 (io), 14 PTE1 (io), 15 PTE2 (io), 16 PTE3 (io), 17 PTE4 (io), 18 PTE5 (io), 19 PTE6 (io), 20 PTE7 (io), 21 VSS (power), 22 VDD (power), 23 PTG0 (io), 24 PTG1 (io), 25 PTG2 (io), 26 PTA0 (io), 27 PTA1 (io), 28 PTA2 (io), 29 PTA3 (io), 30 PTA4 (io), 31 PTA5 (io), 32 PTA6 (io), 33 PTA7 (io), 34 PTB0 (io), 35 PTB1 (io), 36 PTB2 (io), 37 PTB3 (io), 38 PTB4 (io), 39 PTB5 (io), 40 PTB6 (io), 41 PTB7 (io), 42 PTD0 (io), 43 PTD1 (io), 44 VDDA (power), 45 VSSA (power), 46 PTD2 (io), 47 PTD3 (io), 48 PTG3 (io), 49 PTG4 (io), 50 PTD4 (io), 51 PTD5 (io), 52 PTD6 (io), 53 PTD7 (io), 54 VREFH (power), 55 VREFL (power), 56 BKGD/MS (io), 57 PTG5/XTAL (io), 58 PTG6/EXTAL (io), 59 VSS (power), 60 PTC0 (io), 61 PTC1 (io), 62 PTC2 (io), 63 PTC3 (io), 64 PTC5 (io)

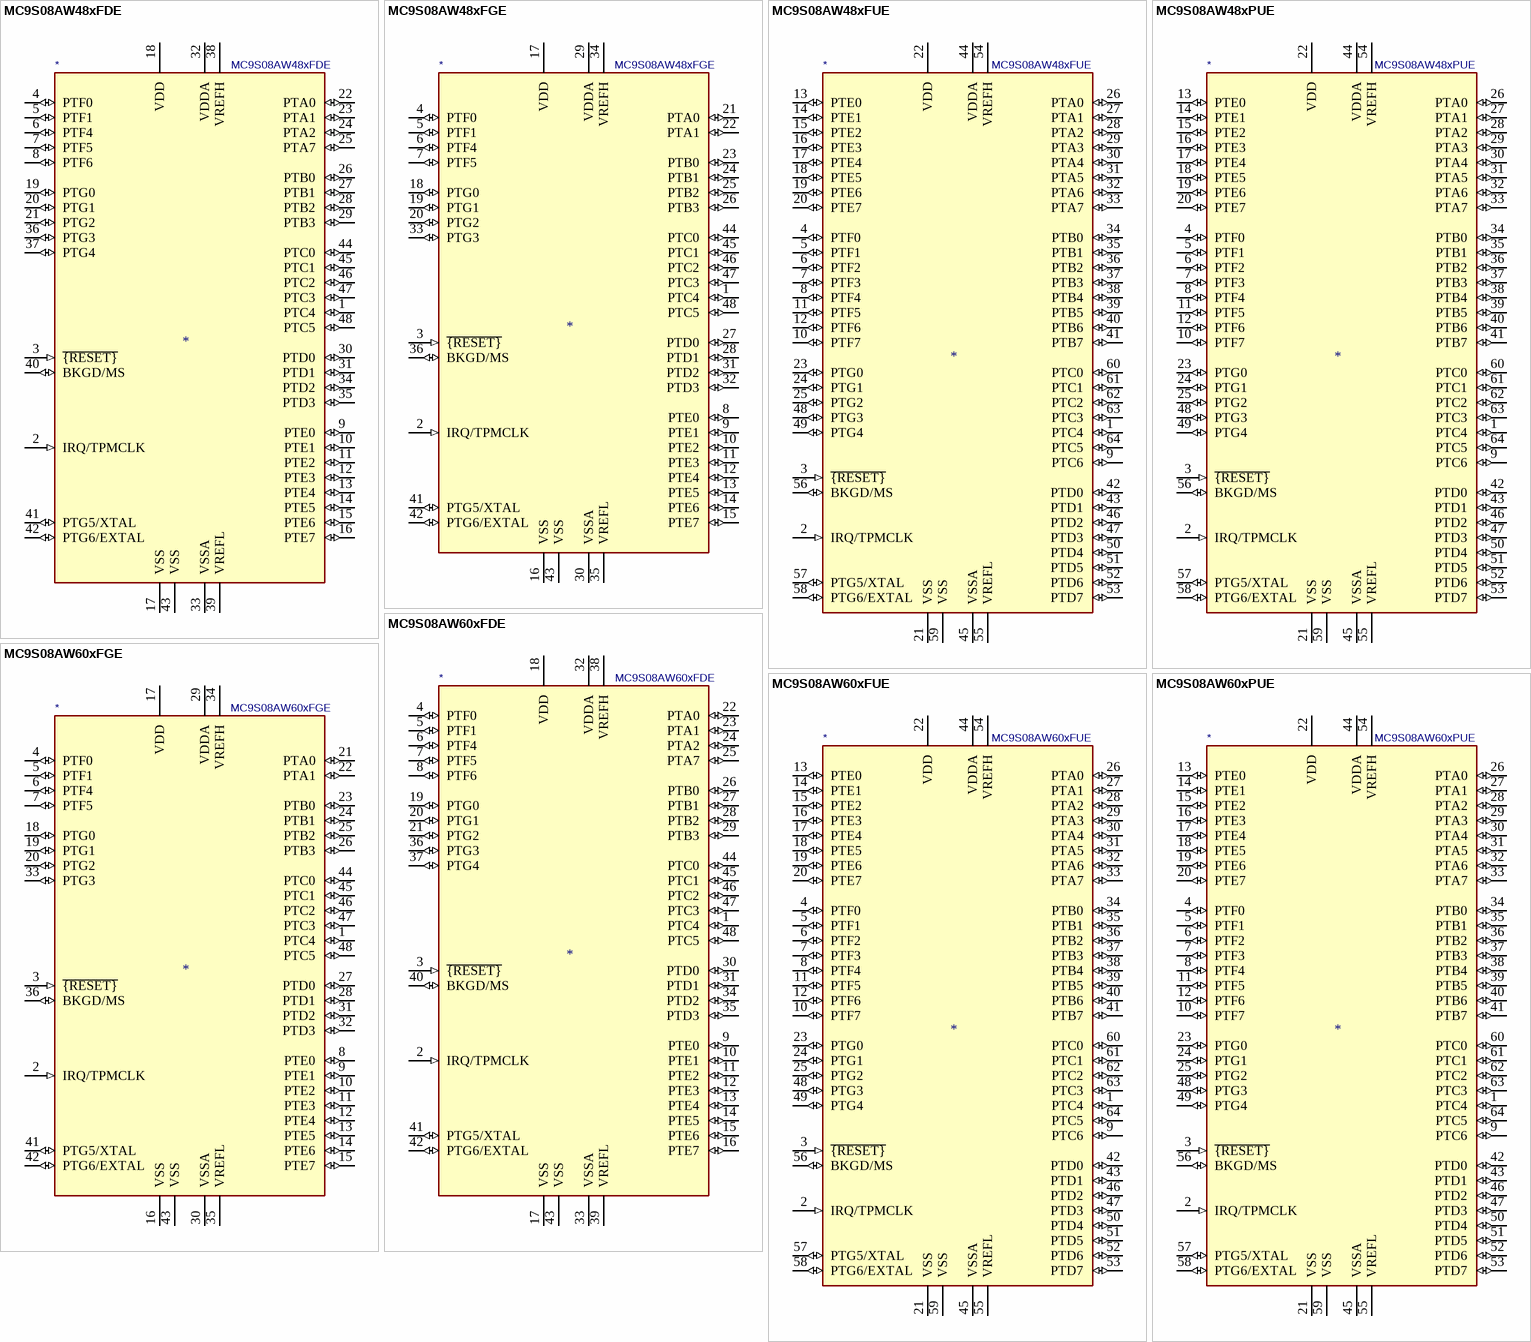
[diagram p5: symbols MC9S08AW48xFDE to MC9S08AW60xPUE]

## MC9S08AW48xFDE
designator *  value MC9S08AW48xFDE
ki_keywords: NXP S08 Microcontroller; ki_description: 8-bit General Purpose Microcontroller, S08 core, 48kB Flash, 2kB RAM, QFN-48; ki_fp_filters: QFN*7x7mm*P0.5mm*; Footprint: Package_DFN_QFN:QFN-48-1EP_7x7mm_P0.5mm_EP5.15x5.15mm; Supplier: http://cache.nxp.com/files/microcontrollers/doc/data_sheet/MC9S08AW60.pdf
footprint QFN-48-1EP_7x7mm_P0.5mm_EP5.15x5.15mm
pins: 1 PTC4 (io), 2 IRQ/TPMCLK (in), 3 ~{{RESET}} (in), 4 PTF0 (io), 5 PTF1 (io), 6 PTF4 (io), 7 PTF5 (io), 8 PTF6 (io), 9 PTE0 (io), 10 PTE1 (io), 11 PTE2 (io), 12 PTE3 (io), 13 PTE4 (io), 14 PTE5 (io), 15 PTE6 (io), 16 PTE7 (io), 17 VSS (power), 18 VDD (power), 19 PTG0 (io), 20 PTG1 (io), 21 PTG2 (io), 22 PTA0 (io), 23 PTA1 (io), 24 PTA2 (io), 25 PTA7 (io), 26 PTB0 (io), 27 PTB1 (io), 28 PTB2 (io), 29 PTB3 (io), 30 PTD0 (io), 31 PTD1 (io), 32 VDDA (power), 33 VSSA (power), 34 PTD2 (io), 35 PTD3 (io), 36 PTG3 (io), 37 PTG4 (io), 38 VREFH (power), 39 VREFL (power), 40 BKGD/MS (io), 41 PTG5/XTAL (io), 42 PTG6/EXTAL (io), 43 VSS (power), 44 PTC0 (io), 45 PTC1 (io), 46 PTC2 (io), 47 PTC3 (io), 48 PTC5 (io)

## MC9S08AW48xFGE
designator *  value MC9S08AW48xFGE
ki_keywords: NXP S08 Microcontroller; ki_description: 8-bit General Purpose Microcontroller, S08 core, 48kB Flash, 2kB RAM, LQFP-44; ki_fp_filters: LQFP*10x10mm*P0.8mm*; Footprint: Package_QFP:LQFP-44_10x10mm_P0.8mm; Supplier: http://cache.nxp.com/files/microcontrollers/doc/data_sheet/MC9S08AW60.pdf
footprint LQFP-44_10x10mm_P0.8mm
pins: 1 PTC4 (io), 2 IRQ/TPMCLK (in), 3 ~{{RESET}} (in), 4 PTF0 (io), 5 PTF1 (io), 6 PTF4 (io), 7 PTF5 (io), 8 PTE0 (io), 9 PTE1 (io), 10 PTE2 (io), 11 PTE3 (io), 12 PTE4 (io), 13 PTE5 (io), 14 PTE6 (io), 15 PTE7 (io), 16 VSS (power), 17 VDD (power), 18 PTG0 (io), 19 PTG1 (io), 20 PTG2 (io), 21 PTA0 (io), 22 PTA1 (io), 23 PTB0 (io), 24 PTB1 (io), 25 PTB2 (io), 26 PTB3 (io), 27 PTD0 (io), 28 PTD1 (io), 29 VDDA (power), 30 VSSA (power), 31 PTD2 (io), 32 PTD3 (io), 33 PTG3 (io), 34 VREFH (power), 35 VREFL (power), 36 BKGD/MS (io), 41 PTG5/XTAL (io), 42 PTG6/EXTAL (io), 43 VSS (power), 44 PTC0 (io), 45 PTC1 (io), 46 PTC2 (io), 47 PTC3 (io), 48 PTC5 (io)